# Altium schematic symbol library MCU_ST_STM32F1.SchLib: 178 symbols (part 1 of 4)
Pins are listed as number, name and electrical type; pins without a type are passive.

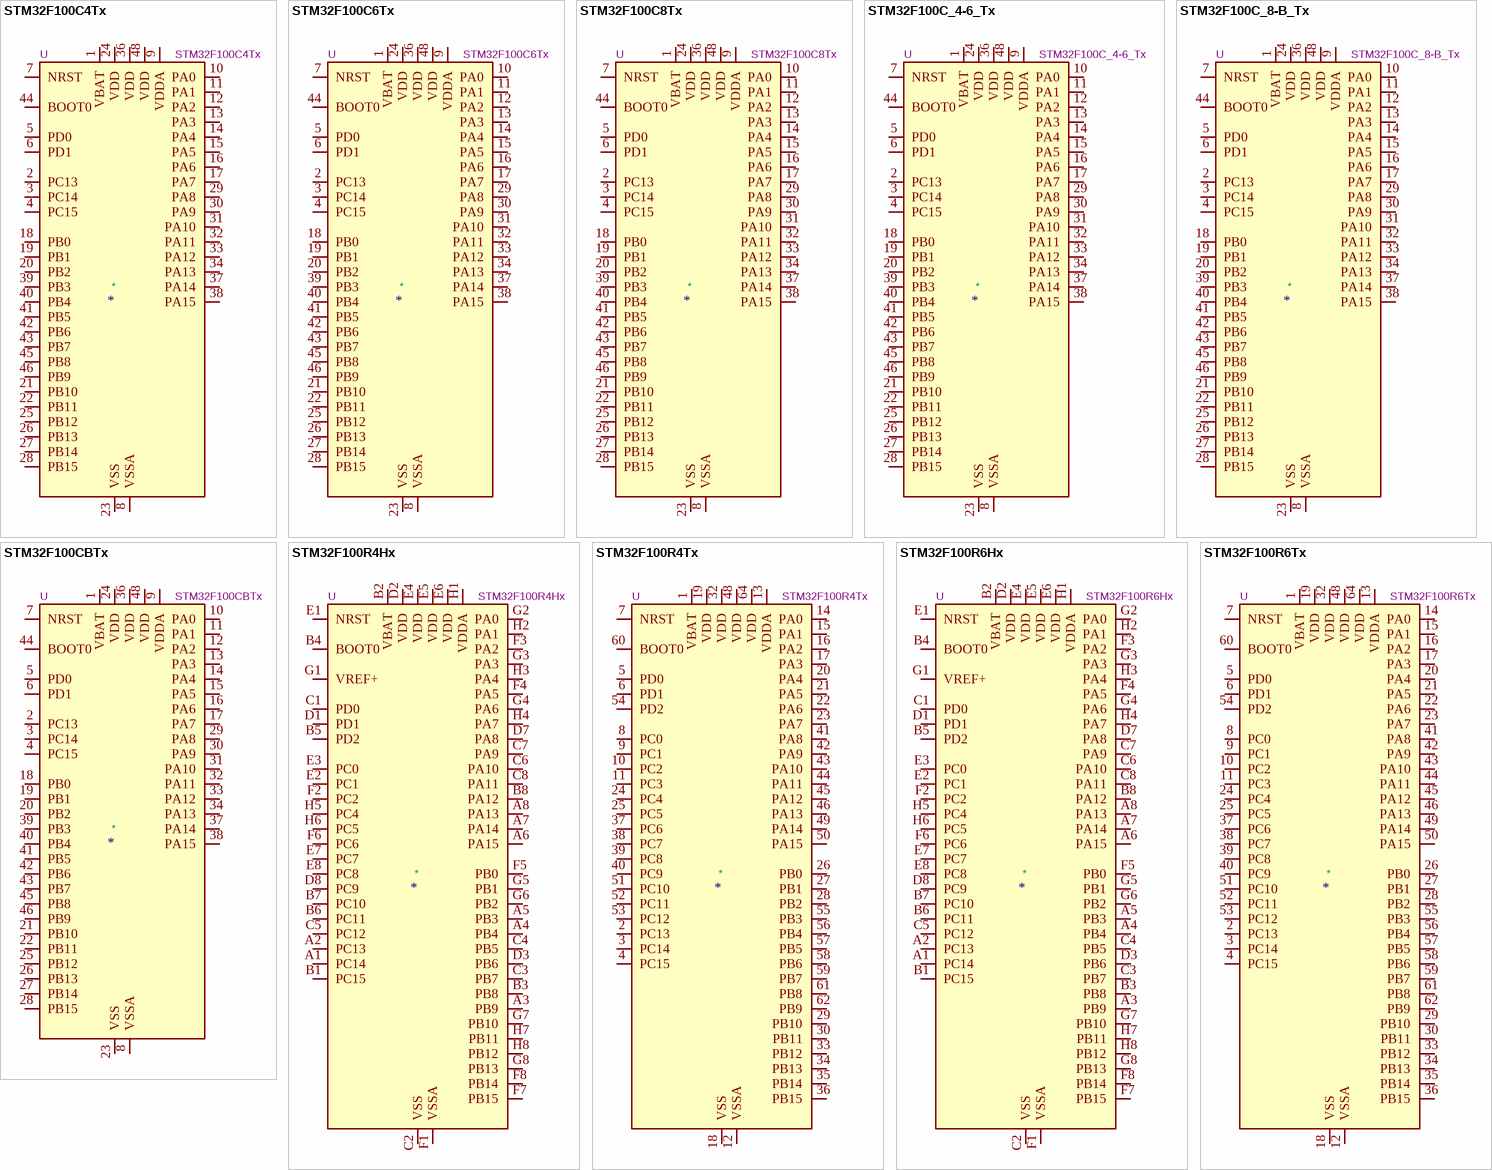
[diagram p0: symbols STM32F100C4Tx to STM32F100R6Tx]

## STM32F100C4Tx
designator *  value STM32F100C4Tx  Reference: U
ki_keywords: Arm Cortex-M3 STM32F1 STM32F100 Value Line; ki_description: STMicroelectronics Arm Cortex-M3 MCU, 16KB flash, 4KB RAM, 24 MHz, 2.0-3.6V, 37 GPIO, LQFP48; ki_fp_filters: LQFP*7x7mm*P0.5mm*; Footprint: Package_QFP:LQFP-48_7x7mm_P0.5mm; Datasheet: https://www.st.com/resource/en/datasheet/stm32f100c4.pdf
pins: 1 VBAT, 2 PC13, 3 PC14, 4 PC15, 5 PD0, 6 PD1, 7 NRST, 8 VSSA, 9 VDDA, 10 PA0, 11 PA1, 12 PA2, 13 PA3, 14 PA4, 15 PA5, 16 PA6, 17 PA7, 18 PB0, 19 PB1, 20 PB2, 21 PB10, 22 PB11, 23 VSS, 24 VDD, 25 PB12, 26 PB13, 27 PB14, 28 PB15, 29 PA8, 30 PA9, 31 PA10, 32 PA11, 33 PA12, 34 PA13, 35 VSS hidden, 36 VDD, 37 PA14, 38 PA15, 39 PB3, 40 PB4, 41 PB5, 42 PB6, 43 PB7, 44 BOOT0, 45 PB8, 46 PB9, 47 VSS hidden, 48 VDD

## STM32F100C6Tx
designator *  value STM32F100C6Tx  Reference: U
ki_keywords: Arm Cortex-M3 STM32F1 STM32F100 Value Line; ki_description: STMicroelectronics Arm Cortex-M3 MCU, 32KB flash, 4KB RAM, 24 MHz, 2.0-3.6V, 37 GPIO, LQFP48; ki_fp_filters: LQFP*7x7mm*P0.5mm*; Footprint: Package_QFP:LQFP-48_7x7mm_P0.5mm; Datasheet: https://www.st.com/resource/en/datasheet/stm32f100c6.pdf
pins: 1 VBAT, 2 PC13, 3 PC14, 4 PC15, 5 PD0, 6 PD1, 7 NRST, 8 VSSA, 9 VDDA, 10 PA0, 11 PA1, 12 PA2, 13 PA3, 14 PA4, 15 PA5, 16 PA6, 17 PA7, 18 PB0, 19 PB1, 20 PB2, 21 PB10, 22 PB11, 23 VSS, 24 VDD, 25 PB12, 26 PB13, 27 PB14, 28 PB15, 29 PA8, 30 PA9, 31 PA10, 32 PA11, 33 PA12, 34 PA13, 35 VSS hidden, 36 VDD, 37 PA14, 38 PA15, 39 PB3, 40 PB4, 41 PB5, 42 PB6, 43 PB7, 44 BOOT0, 45 PB8, 46 PB9, 47 VSS hidden, 48 VDD

## STM32F100C8Tx
designator *  value STM32F100C8Tx  Reference: U
ki_keywords: Arm Cortex-M3 STM32F1 STM32F100 Value Line; ki_description: STMicroelectronics Arm Cortex-M3 MCU, 64KB flash, 8KB RAM, 24 MHz, 2.0-3.6V, 37 GPIO, LQFP48; ki_fp_filters: LQFP*7x7mm*P0.5mm*; Footprint: Package_QFP:LQFP-48_7x7mm_P0.5mm; Datasheet: https://www.st.com/resource/en/datasheet/stm32f100c8.pdf
pins: 1 VBAT, 2 PC13, 3 PC14, 4 PC15, 5 PD0, 6 PD1, 7 NRST, 8 VSSA, 9 VDDA, 10 PA0, 11 PA1, 12 PA2, 13 PA3, 14 PA4, 15 PA5, 16 PA6, 17 PA7, 18 PB0, 19 PB1, 20 PB2, 21 PB10, 22 PB11, 23 VSS, 24 VDD, 25 PB12, 26 PB13, 27 PB14, 28 PB15, 29 PA8, 30 PA9, 31 PA10, 32 PA11, 33 PA12, 34 PA13, 35 VSS hidden, 36 VDD, 37 PA14, 38 PA15, 39 PB3, 40 PB4, 41 PB5, 42 PB6, 43 PB7, 44 BOOT0, 45 PB8, 46 PB9, 47 VSS hidden, 48 VDD

## STM32F100C_4-6_Tx
designator *  value STM32F100C_4-6_Tx  Reference: U
ki_keywords: Arm Cortex-M3 STM32F1 STM32F100 Value Line; ki_description: STMicroelectronics Arm Cortex-M3 MCU, 16-32KB flash, 4KB RAM, 24 MHz, 2.0-3.6V, 37 GPIO, LQFP48; ki_fp_filters: LQFP*7x7mm*P0.5mm*; Footprint: Package_QFP:LQFP-48_7x7mm_P0.5mm; Datasheet: https://www.st.com/resource/en/datasheet/stm32f100c4.pdf
pins: 1 VBAT, 2 PC13, 3 PC14, 4 PC15, 5 PD0, 6 PD1, 7 NRST, 8 VSSA, 9 VDDA, 10 PA0, 11 PA1, 12 PA2, 13 PA3, 14 PA4, 15 PA5, 16 PA6, 17 PA7, 18 PB0, 19 PB1, 20 PB2, 21 PB10, 22 PB11, 23 VSS, 24 VDD, 25 PB12, 26 PB13, 27 PB14, 28 PB15, 29 PA8, 30 PA9, 31 PA10, 32 PA11, 33 PA12, 34 PA13, 35 VSS hidden, 36 VDD, 37 PA14, 38 PA15, 39 PB3, 40 PB4, 41 PB5, 42 PB6, 43 PB7, 44 BOOT0, 45 PB8, 46 PB9, 47 VSS hidden, 48 VDD

## STM32F100C_8-B_Tx
designator *  value STM32F100C_8-B_Tx  Reference: U
ki_keywords: Arm Cortex-M3 STM32F1 STM32F100 Value Line; ki_description: STMicroelectronics Arm Cortex-M3 MCU, 64-128KB flash, 8KB RAM, 24 MHz, 2.0-3.6V, 37 GPIO, LQFP48; ki_fp_filters: LQFP*7x7mm*P0.5mm*; Footprint: Package_QFP:LQFP-48_7x7mm_P0.5mm; Datasheet: https://www.st.com/resource/en/datasheet/stm32f100c8.pdf
pins: 1 VBAT, 2 PC13, 3 PC14, 4 PC15, 5 PD0, 6 PD1, 7 NRST, 8 VSSA, 9 VDDA, 10 PA0, 11 PA1, 12 PA2, 13 PA3, 14 PA4, 15 PA5, 16 PA6, 17 PA7, 18 PB0, 19 PB1, 20 PB2, 21 PB10, 22 PB11, 23 VSS, 24 VDD, 25 PB12, 26 PB13, 27 PB14, 28 PB15, 29 PA8, 30 PA9, 31 PA10, 32 PA11, 33 PA12, 34 PA13, 35 VSS hidden, 36 VDD, 37 PA14, 38 PA15, 39 PB3, 40 PB4, 41 PB5, 42 PB6, 43 PB7, 44 BOOT0, 45 PB8, 46 PB9, 47 VSS hidden, 48 VDD

## STM32F100CBTx
designator *  value STM32F100CBTx  Reference: U
ki_keywords: Arm Cortex-M3 STM32F1 STM32F100 Value Line; ki_description: STMicroelectronics Arm Cortex-M3 MCU, 128KB flash, 8KB RAM, 24 MHz, 2.0-3.6V, 37 GPIO, LQFP48; ki_fp_filters: LQFP*7x7mm*P0.5mm*; Footprint: Package_QFP:LQFP-48_7x7mm_P0.5mm; Datasheet: https://www.st.com/resource/en/datasheet/stm32f100cb.pdf
pins: 1 VBAT, 2 PC13, 3 PC14, 4 PC15, 5 PD0, 6 PD1, 7 NRST, 8 VSSA, 9 VDDA, 10 PA0, 11 PA1, 12 PA2, 13 PA3, 14 PA4, 15 PA5, 16 PA6, 17 PA7, 18 PB0, 19 PB1, 20 PB2, 21 PB10, 22 PB11, 23 VSS, 24 VDD, 25 PB12, 26 PB13, 27 PB14, 28 PB15, 29 PA8, 30 PA9, 31 PA10, 32 PA11, 33 PA12, 34 PA13, 35 VSS hidden, 36 VDD, 37 PA14, 38 PA15, 39 PB3, 40 PB4, 41 PB5, 42 PB6, 43 PB7, 44 BOOT0, 45 PB8, 46 PB9, 47 VSS hidden, 48 VDD

## STM32F100R4Hx
designator *  value STM32F100R4Hx  Reference: U
ki_keywords: Arm Cortex-M3 STM32F1 STM32F100 Value Line; ki_description: STMicroelectronics Arm Cortex-M3 MCU, 16KB flash, 4KB RAM, 24 MHz, 2.0-3.6V, 50 GPIO, TFBGA64; ki_fp_filters: TFBGA*5x5mm*Layout8x8*P0.5mm*; Footprint: Package_BGA:TFBGA-64_5x5mm_Layout8x8_P0.5mm; Datasheet: https://www.st.com/resource/en/datasheet/stm32f100r4.pdf
pins: A1 PC14, A2 PC13, A3 PB9, A4 PB4, A5 PB3, A6 PA15, A7 PA14, A8 PA13, B1 PC15, B2 VBAT, B3 PB8, B4 BOOT0, B5 PD2, B6 PC11, B7 PC10, B8 PA12, C1 PD0, C2 VSS, C3 PB7, C4 PB5, C5 PC12, C6 PA10, C7 PA9, C8 PA11, D1 PD1, D2 VDD, D3 PB6, D4 VSS hidden, D5 VSS hidden, D6 VSS hidden, D7 PA8, D8 PC9, E1 NRST, E2 PC1, E3 PC0, E4 VDD, E5 VDD, E6 VDD, E7 PC7, E8 PC8, F1 VSSA, F2 PC2, F3 PA2, F4 PA5, F5 PB0, F6 PC6, F7 PB15, F8 PB14, G1 VREF+, G2 PA0, G3 PA3, G4 PA6, G5 PB1, G6 PB2, G7 PB10, G8 PB13, H1 VDDA, H2 PA1, H3 PA4, H4 PA7, H5 PC4, H6 PC5, H7 PB11, H8 PB12

## STM32F100R4Tx
designator *  value STM32F100R4Tx  Reference: U
ki_keywords: Arm Cortex-M3 STM32F1 STM32F100 Value Line; ki_description: STMicroelectronics Arm Cortex-M3 MCU, 16KB flash, 4KB RAM, 24 MHz, 2.0-3.6V, 51 GPIO, LQFP64; ki_fp_filters: LQFP*10x10mm*P0.5mm*; Footprint: Package_QFP:LQFP-64_10x10mm_P0.5mm; Datasheet: https://www.st.com/resource/en/datasheet/stm32f100r4.pdf
pins: 1 VBAT, 2 PC13, 3 PC14, 4 PC15, 5 PD0, 6 PD1, 7 NRST, 8 PC0, 9 PC1, 10 PC2, 11 PC3, 12 VSSA, 13 VDDA, 14 PA0, 15 PA1, 16 PA2, 17 PA3, 18 VSS, 19 VDD, 20 PA4, 21 PA5, 22 PA6, 23 PA7, 24 PC4, 25 PC5, 26 PB0, 27 PB1, 28 PB2, 29 PB10, 30 PB11, 31 VSS hidden, 32 VDD, 33 PB12, 34 PB13, 35 PB14, 36 PB15, 37 PC6, 38 PC7, 39 PC8, 40 PC9, 41 PA8, 42 PA9, 43 PA10, 44 PA11, 45 PA12, 46 PA13, 47 VSS hidden, 48 VDD, 49 PA14, 50 PA15, 51 PC10, 52 PC11, 53 PC12, 54 PD2, 55 PB3, 56 PB4, 57 PB5, 58 PB6, 59 PB7, 60 BOOT0, 61 PB8, 62 PB9, 63 VSS hidden, 64 VDD

## STM32F100R6Hx
designator *  value STM32F100R6Hx  Reference: U
ki_keywords: Arm Cortex-M3 STM32F1 STM32F100 Value Line; ki_description: STMicroelectronics Arm Cortex-M3 MCU, 32KB flash, 4KB RAM, 24 MHz, 2.0-3.6V, 50 GPIO, TFBGA64; ki_fp_filters: TFBGA*5x5mm*Layout8x8*P0.5mm*; Footprint: Package_BGA:TFBGA-64_5x5mm_Layout8x8_P0.5mm; Datasheet: https://www.st.com/resource/en/datasheet/stm32f100r6.pdf
pins: A1 PC14, A2 PC13, A3 PB9, A4 PB4, A5 PB3, A6 PA15, A7 PA14, A8 PA13, B1 PC15, B2 VBAT, B3 PB8, B4 BOOT0, B5 PD2, B6 PC11, B7 PC10, B8 PA12, C1 PD0, C2 VSS, C3 PB7, C4 PB5, C5 PC12, C6 PA10, C7 PA9, C8 PA11, D1 PD1, D2 VDD, D3 PB6, D4 VSS hidden, D5 VSS hidden, D6 VSS hidden, D7 PA8, D8 PC9, E1 NRST, E2 PC1, E3 PC0, E4 VDD, E5 VDD, E6 VDD, E7 PC7, E8 PC8, F1 VSSA, F2 PC2, F3 PA2, F4 PA5, F5 PB0, F6 PC6, F7 PB15, F8 PB14, G1 VREF+, G2 PA0, G3 PA3, G4 PA6, G5 PB1, G6 PB2, G7 PB10, G8 PB13, H1 VDDA, H2 PA1, H3 PA4, H4 PA7, H5 PC4, H6 PC5, H7 PB11, H8 PB12

## STM32F100R6Tx
designator *  value STM32F100R6Tx  Reference: U
ki_keywords: Arm Cortex-M3 STM32F1 STM32F100 Value Line; ki_description: STMicroelectronics Arm Cortex-M3 MCU, 32KB flash, 4KB RAM, 24 MHz, 2.0-3.6V, 51 GPIO, LQFP64; ki_fp_filters: LQFP*10x10mm*P0.5mm*; Footprint: Package_QFP:LQFP-64_10x10mm_P0.5mm; Datasheet: https://www.st.com/resource/en/datasheet/stm32f100r6.pdf
pins: 1 VBAT, 2 PC13, 3 PC14, 4 PC15, 5 PD0, 6 PD1, 7 NRST, 8 PC0, 9 PC1, 10 PC2, 11 PC3, 12 VSSA, 13 VDDA, 14 PA0, 15 PA1, 16 PA2, 17 PA3, 18 VSS, 19 VDD, 20 PA4, 21 PA5, 22 PA6, 23 PA7, 24 PC4, 25 PC5, 26 PB0, 27 PB1, 28 PB2, 29 PB10, 30 PB11, 31 VSS hidden, 32 VDD, 33 PB12, 34 PB13, 35 PB14, 36 PB15, 37 PC6, 38 PC7, 39 PC8, 40 PC9, 41 PA8, 42 PA9, 43 PA10, 44 PA11, 45 PA12, 46 PA13, 47 VSS hidden, 48 VDD, 49 PA14, 50 PA15, 51 PC10, 52 PC11, 53 PC12, 54 PD2, 55 PB3, 56 PB4, 57 PB5, 58 PB6, 59 PB7, 60 BOOT0, 61 PB8, 62 PB9, 63 VSS hidden, 64 VDD

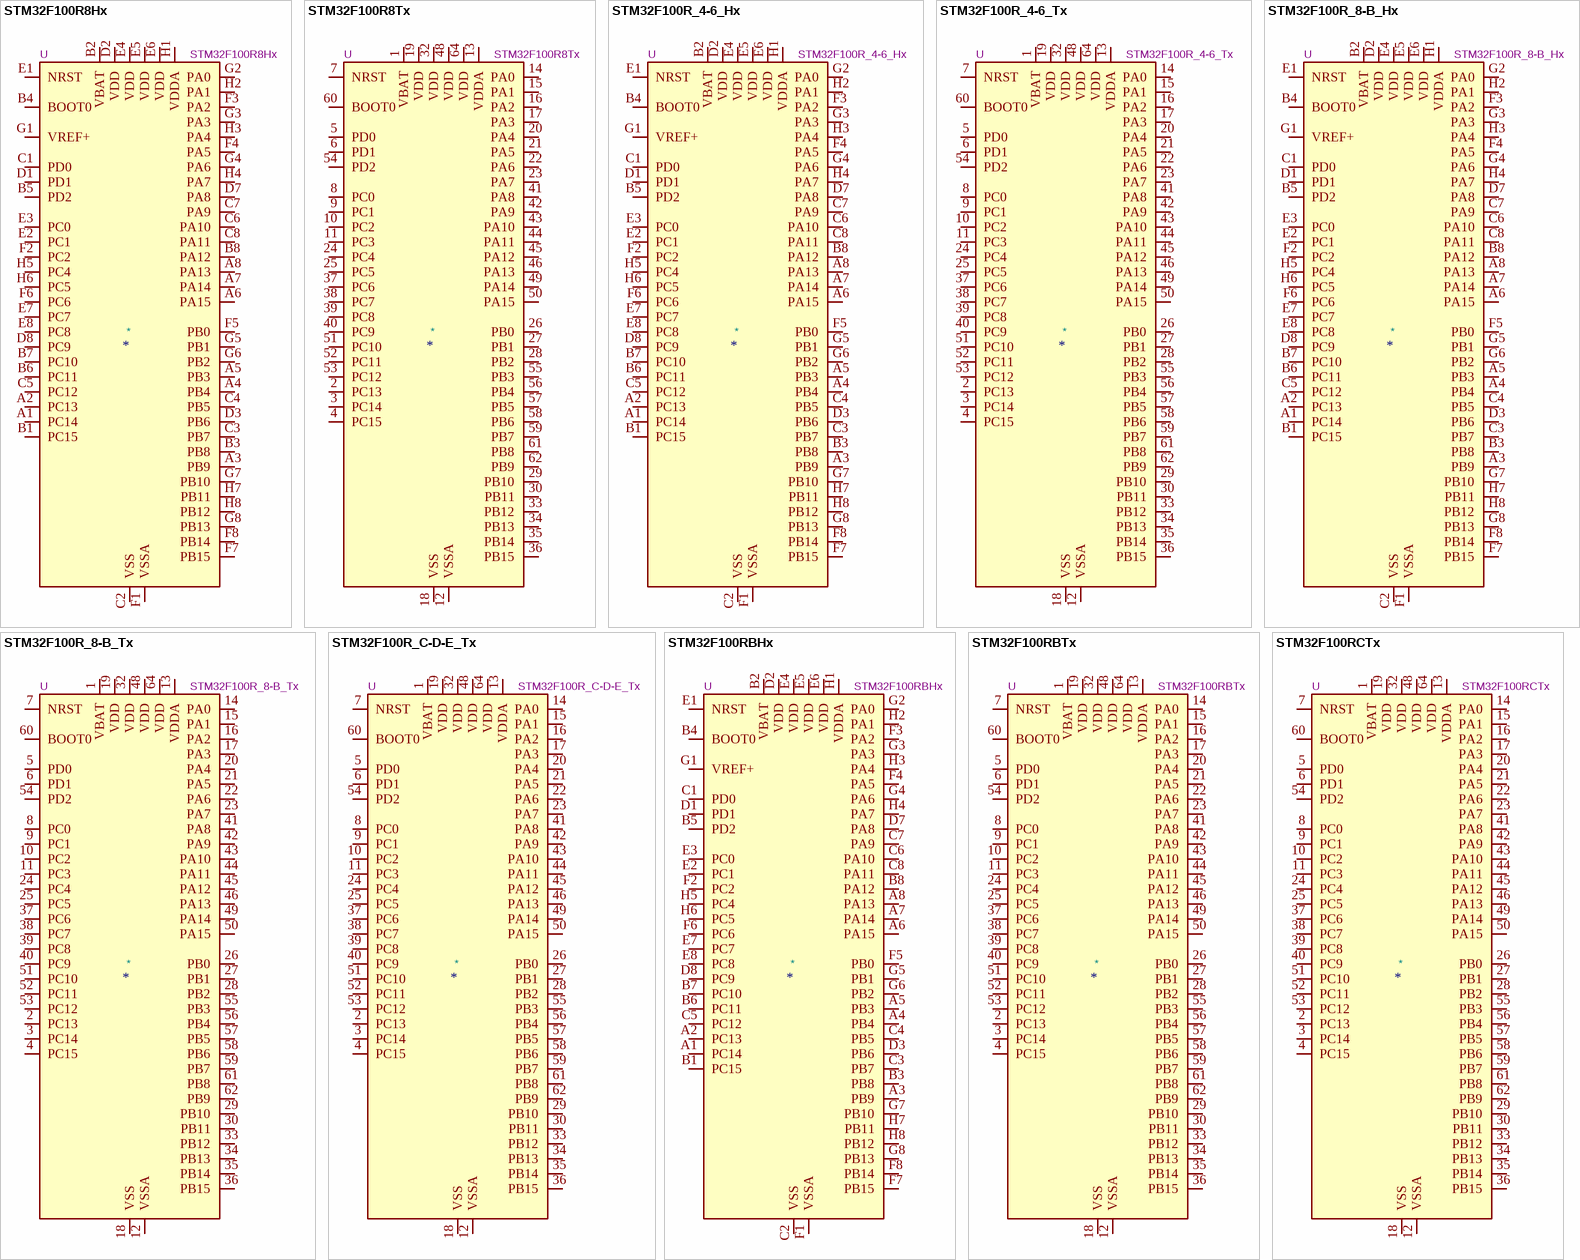
[diagram p1: symbols STM32F100R8Hx to STM32F100RCTx]

## STM32F100R8Hx
designator *  value STM32F100R8Hx  Reference: U
ki_keywords: Arm Cortex-M3 STM32F1 STM32F100 Value Line; ki_description: STMicroelectronics Arm Cortex-M3 MCU, 64KB flash, 8KB RAM, 24 MHz, 2.0-3.6V, 50 GPIO, TFBGA64; ki_fp_filters: TFBGA*5x5mm*Layout8x8*P0.5mm*; Footprint: Package_BGA:TFBGA-64_5x5mm_Layout8x8_P0.5mm; Datasheet: https://www.st.com/resource/en/datasheet/stm32f100r8.pdf
pins: A1 PC14, A2 PC13, A3 PB9, A4 PB4, A5 PB3, A6 PA15, A7 PA14, A8 PA13, B1 PC15, B2 VBAT, B3 PB8, B4 BOOT0, B5 PD2, B6 PC11, B7 PC10, B8 PA12, C1 PD0, C2 VSS, C3 PB7, C4 PB5, C5 PC12, C6 PA10, C7 PA9, C8 PA11, D1 PD1, D2 VDD, D3 PB6, D4 VSS hidden, D5 VSS hidden, D6 VSS hidden, D7 PA8, D8 PC9, E1 NRST, E2 PC1, E3 PC0, E4 VDD, E5 VDD, E6 VDD, E7 PC7, E8 PC8, F1 VSSA, F2 PC2, F3 PA2, F4 PA5, F5 PB0, F6 PC6, F7 PB15, F8 PB14, G1 VREF+, G2 PA0, G3 PA3, G4 PA6, G5 PB1, G6 PB2, G7 PB10, G8 PB13, H1 VDDA, H2 PA1, H3 PA4, H4 PA7, H5 PC4, H6 PC5, H7 PB11, H8 PB12

## STM32F100R8Tx
designator *  value STM32F100R8Tx  Reference: U
ki_keywords: Arm Cortex-M3 STM32F1 STM32F100 Value Line; ki_description: STMicroelectronics Arm Cortex-M3 MCU, 64KB flash, 8KB RAM, 24 MHz, 2.0-3.6V, 51 GPIO, LQFP64; ki_fp_filters: LQFP*10x10mm*P0.5mm*; Footprint: Package_QFP:LQFP-64_10x10mm_P0.5mm; Datasheet: https://www.st.com/resource/en/datasheet/stm32f100r8.pdf
pins: 1 VBAT, 2 PC13, 3 PC14, 4 PC15, 5 PD0, 6 PD1, 7 NRST, 8 PC0, 9 PC1, 10 PC2, 11 PC3, 12 VSSA, 13 VDDA, 14 PA0, 15 PA1, 16 PA2, 17 PA3, 18 VSS, 19 VDD, 20 PA4, 21 PA5, 22 PA6, 23 PA7, 24 PC4, 25 PC5, 26 PB0, 27 PB1, 28 PB2, 29 PB10, 30 PB11, 31 VSS hidden, 32 VDD, 33 PB12, 34 PB13, 35 PB14, 36 PB15, 37 PC6, 38 PC7, 39 PC8, 40 PC9, 41 PA8, 42 PA9, 43 PA10, 44 PA11, 45 PA12, 46 PA13, 47 VSS hidden, 48 VDD, 49 PA14, 50 PA15, 51 PC10, 52 PC11, 53 PC12, 54 PD2, 55 PB3, 56 PB4, 57 PB5, 58 PB6, 59 PB7, 60 BOOT0, 61 PB8, 62 PB9, 63 VSS hidden, 64 VDD

## STM32F100R_4-6_Hx
designator *  value STM32F100R_4-6_Hx  Reference: U
ki_keywords: Arm Cortex-M3 STM32F1 STM32F100 Value Line; ki_description: STMicroelectronics Arm Cortex-M3 MCU, 16-32KB flash, 4KB RAM, 24 MHz, 2.0-3.6V, 50 GPIO, TFBGA64; ki_fp_filters: TFBGA*5x5mm*Layout8x8*P0.5mm*; Footprint: Package_BGA:TFBGA-64_5x5mm_Layout8x8_P0.5mm; Datasheet: https://www.st.com/resource/en/datasheet/stm32f100r4.pdf
pins: A1 PC14, A2 PC13, A3 PB9, A4 PB4, A5 PB3, A6 PA15, A7 PA14, A8 PA13, B1 PC15, B2 VBAT, B3 PB8, B4 BOOT0, B5 PD2, B6 PC11, B7 PC10, B8 PA12, C1 PD0, C2 VSS, C3 PB7, C4 PB5, C5 PC12, C6 PA10, C7 PA9, C8 PA11, D1 PD1, D2 VDD, D3 PB6, D4 VSS hidden, D5 VSS hidden, D6 VSS hidden, D7 PA8, D8 PC9, E1 NRST, E2 PC1, E3 PC0, E4 VDD, E5 VDD, E6 VDD, E7 PC7, E8 PC8, F1 VSSA, F2 PC2, F3 PA2, F4 PA5, F5 PB0, F6 PC6, F7 PB15, F8 PB14, G1 VREF+, G2 PA0, G3 PA3, G4 PA6, G5 PB1, G6 PB2, G7 PB10, G8 PB13, H1 VDDA, H2 PA1, H3 PA4, H4 PA7, H5 PC4, H6 PC5, H7 PB11, H8 PB12

## STM32F100R_4-6_Tx
designator *  value STM32F100R_4-6_Tx  Reference: U
ki_keywords: Arm Cortex-M3 STM32F1 STM32F100 Value Line; ki_description: STMicroelectronics Arm Cortex-M3 MCU, 16-32KB flash, 4KB RAM, 24 MHz, 2.0-3.6V, 51 GPIO, LQFP64; ki_fp_filters: LQFP*10x10mm*P0.5mm*; Footprint: Package_QFP:LQFP-64_10x10mm_P0.5mm; Datasheet: https://www.st.com/resource/en/datasheet/stm32f100r4.pdf
pins: 1 VBAT, 2 PC13, 3 PC14, 4 PC15, 5 PD0, 6 PD1, 7 NRST, 8 PC0, 9 PC1, 10 PC2, 11 PC3, 12 VSSA, 13 VDDA, 14 PA0, 15 PA1, 16 PA2, 17 PA3, 18 VSS, 19 VDD, 20 PA4, 21 PA5, 22 PA6, 23 PA7, 24 PC4, 25 PC5, 26 PB0, 27 PB1, 28 PB2, 29 PB10, 30 PB11, 31 VSS hidden, 32 VDD, 33 PB12, 34 PB13, 35 PB14, 36 PB15, 37 PC6, 38 PC7, 39 PC8, 40 PC9, 41 PA8, 42 PA9, 43 PA10, 44 PA11, 45 PA12, 46 PA13, 47 VSS hidden, 48 VDD, 49 PA14, 50 PA15, 51 PC10, 52 PC11, 53 PC12, 54 PD2, 55 PB3, 56 PB4, 57 PB5, 58 PB6, 59 PB7, 60 BOOT0, 61 PB8, 62 PB9, 63 VSS hidden, 64 VDD

## STM32F100R_8-B_Hx
designator *  value STM32F100R_8-B_Hx  Reference: U
ki_keywords: Arm Cortex-M3 STM32F1 STM32F100 Value Line; ki_description: STMicroelectronics Arm Cortex-M3 MCU, 64-128KB flash, 8KB RAM, 24 MHz, 2.0-3.6V, 50 GPIO, TFBGA64; ki_fp_filters: TFBGA*5x5mm*Layout8x8*P0.5mm*; Footprint: Package_BGA:TFBGA-64_5x5mm_Layout8x8_P0.5mm; Datasheet: https://www.st.com/resource/en/datasheet/stm32f100r8.pdf
pins: A1 PC14, A2 PC13, A3 PB9, A4 PB4, A5 PB3, A6 PA15, A7 PA14, A8 PA13, B1 PC15, B2 VBAT, B3 PB8, B4 BOOT0, B5 PD2, B6 PC11, B7 PC10, B8 PA12, C1 PD0, C2 VSS, C3 PB7, C4 PB5, C5 PC12, C6 PA10, C7 PA9, C8 PA11, D1 PD1, D2 VDD, D3 PB6, D4 VSS hidden, D5 VSS hidden, D6 VSS hidden, D7 PA8, D8 PC9, E1 NRST, E2 PC1, E3 PC0, E4 VDD, E5 VDD, E6 VDD, E7 PC7, E8 PC8, F1 VSSA, F2 PC2, F3 PA2, F4 PA5, F5 PB0, F6 PC6, F7 PB15, F8 PB14, G1 VREF+, G2 PA0, G3 PA3, G4 PA6, G5 PB1, G6 PB2, G7 PB10, G8 PB13, H1 VDDA, H2 PA1, H3 PA4, H4 PA7, H5 PC4, H6 PC5, H7 PB11, H8 PB12

## STM32F100R_8-B_Tx
designator *  value STM32F100R_8-B_Tx  Reference: U
ki_keywords: Arm Cortex-M3 STM32F1 STM32F100 Value Line; ki_description: STMicroelectronics Arm Cortex-M3 MCU, 64-128KB flash, 8KB RAM, 24 MHz, 2.0-3.6V, 51 GPIO, LQFP64; ki_fp_filters: LQFP*10x10mm*P0.5mm*; Footprint: Package_QFP:LQFP-64_10x10mm_P0.5mm; Datasheet: https://www.st.com/resource/en/datasheet/stm32f100r8.pdf
pins: 1 VBAT, 2 PC13, 3 PC14, 4 PC15, 5 PD0, 6 PD1, 7 NRST, 8 PC0, 9 PC1, 10 PC2, 11 PC3, 12 VSSA, 13 VDDA, 14 PA0, 15 PA1, 16 PA2, 17 PA3, 18 VSS, 19 VDD, 20 PA4, 21 PA5, 22 PA6, 23 PA7, 24 PC4, 25 PC5, 26 PB0, 27 PB1, 28 PB2, 29 PB10, 30 PB11, 31 VSS hidden, 32 VDD, 33 PB12, 34 PB13, 35 PB14, 36 PB15, 37 PC6, 38 PC7, 39 PC8, 40 PC9, 41 PA8, 42 PA9, 43 PA10, 44 PA11, 45 PA12, 46 PA13, 47 VSS hidden, 48 VDD, 49 PA14, 50 PA15, 51 PC10, 52 PC11, 53 PC12, 54 PD2, 55 PB3, 56 PB4, 57 PB5, 58 PB6, 59 PB7, 60 BOOT0, 61 PB8, 62 PB9, 63 VSS hidden, 64 VDD

## STM32F100R_C-D-E_Tx
designator *  value STM32F100R_C-D-E_Tx  Reference: U
ki_keywords: Arm Cortex-M3 STM32F1 STM32F100 Value Line; ki_description: STMicroelectronics Arm Cortex-M3 MCU, 256-512KB flash, 24-32KB RAM, 24 MHz, 2.0-3.6V, 51 GPIO, LQFP64; ki_fp_filters: LQFP*10x10mm*P0.5mm*; Footprint: Package_QFP:LQFP-64_10x10mm_P0.5mm; Datasheet: https://www.st.com/resource/en/datasheet/stm32f100rc.pdf
pins: 1 VBAT, 2 PC13, 3 PC14, 4 PC15, 5 PD0, 6 PD1, 7 NRST, 8 PC0, 9 PC1, 10 PC2, 11 PC3, 12 VSSA, 13 VDDA, 14 PA0, 15 PA1, 16 PA2, 17 PA3, 18 VSS, 19 VDD, 20 PA4, 21 PA5, 22 PA6, 23 PA7, 24 PC4, 25 PC5, 26 PB0, 27 PB1, 28 PB2, 29 PB10, 30 PB11, 31 VSS hidden, 32 VDD, 33 PB12, 34 PB13, 35 PB14, 36 PB15, 37 PC6, 38 PC7, 39 PC8, 40 PC9, 41 PA8, 42 PA9, 43 PA10, 44 PA11, 45 PA12, 46 PA13, 47 VSS hidden, 48 VDD, 49 PA14, 50 PA15, 51 PC10, 52 PC11, 53 PC12, 54 PD2, 55 PB3, 56 PB4, 57 PB5, 58 PB6, 59 PB7, 60 BOOT0, 61 PB8, 62 PB9, 63 VSS hidden, 64 VDD

## STM32F100RBHx
designator *  value STM32F100RBHx  Reference: U
ki_keywords: Arm Cortex-M3 STM32F1 STM32F100 Value Line; ki_description: STMicroelectronics Arm Cortex-M3 MCU, 128KB flash, 8KB RAM, 24 MHz, 2.0-3.6V, 50 GPIO, TFBGA64; ki_fp_filters: TFBGA*5x5mm*Layout8x8*P0.5mm*; Footprint: Package_BGA:TFBGA-64_5x5mm_Layout8x8_P0.5mm; Datasheet: https://www.st.com/resource/en/datasheet/stm32f100rb.pdf
pins: A1 PC14, A2 PC13, A3 PB9, A4 PB4, A5 PB3, A6 PA15, A7 PA14, A8 PA13, B1 PC15, B2 VBAT, B3 PB8, B4 BOOT0, B5 PD2, B6 PC11, B7 PC10, B8 PA12, C1 PD0, C2 VSS, C3 PB7, C4 PB5, C5 PC12, C6 PA10, C7 PA9, C8 PA11, D1 PD1, D2 VDD, D3 PB6, D4 VSS hidden, D5 VSS hidden, D6 VSS hidden, D7 PA8, D8 PC9, E1 NRST, E2 PC1, E3 PC0, E4 VDD, E5 VDD, E6 VDD, E7 PC7, E8 PC8, F1 VSSA, F2 PC2, F3 PA2, F4 PA5, F5 PB0, F6 PC6, F7 PB15, F8 PB14, G1 VREF+, G2 PA0, G3 PA3, G4 PA6, G5 PB1, G6 PB2, G7 PB10, G8 PB13, H1 VDDA, H2 PA1, H3 PA4, H4 PA7, H5 PC4, H6 PC5, H7 PB11, H8 PB12

## STM32F100RBTx
designator *  value STM32F100RBTx  Reference: U
ki_keywords: Arm Cortex-M3 STM32F1 STM32F100 Value Line; ki_description: STMicroelectronics Arm Cortex-M3 MCU, 128KB flash, 8KB RAM, 24 MHz, 2.0-3.6V, 51 GPIO, LQFP64; ki_fp_filters: LQFP*10x10mm*P0.5mm*; Footprint: Package_QFP:LQFP-64_10x10mm_P0.5mm; Datasheet: https://www.st.com/resource/en/datasheet/stm32f100rb.pdf
pins: 1 VBAT, 2 PC13, 3 PC14, 4 PC15, 5 PD0, 6 PD1, 7 NRST, 8 PC0, 9 PC1, 10 PC2, 11 PC3, 12 VSSA, 13 VDDA, 14 PA0, 15 PA1, 16 PA2, 17 PA3, 18 VSS, 19 VDD, 20 PA4, 21 PA5, 22 PA6, 23 PA7, 24 PC4, 25 PC5, 26 PB0, 27 PB1, 28 PB2, 29 PB10, 30 PB11, 31 VSS hidden, 32 VDD, 33 PB12, 34 PB13, 35 PB14, 36 PB15, 37 PC6, 38 PC7, 39 PC8, 40 PC9, 41 PA8, 42 PA9, 43 PA10, 44 PA11, 45 PA12, 46 PA13, 47 VSS hidden, 48 VDD, 49 PA14, 50 PA15, 51 PC10, 52 PC11, 53 PC12, 54 PD2, 55 PB3, 56 PB4, 57 PB5, 58 PB6, 59 PB7, 60 BOOT0, 61 PB8, 62 PB9, 63 VSS hidden, 64 VDD

## STM32F100RCTx
designator *  value STM32F100RCTx  Reference: U
ki_keywords: Arm Cortex-M3 STM32F1 STM32F100 Value Line; ki_description: STMicroelectronics Arm Cortex-M3 MCU, 256KB flash, 24KB RAM, 24 MHz, 2.0-3.6V, 51 GPIO, LQFP64; ki_fp_filters: LQFP*10x10mm*P0.5mm*; Footprint: Package_QFP:LQFP-64_10x10mm_P0.5mm; Datasheet: https://www.st.com/resource/en/datasheet/stm32f100rc.pdf
pins: 1 VBAT, 2 PC13, 3 PC14, 4 PC15, 5 PD0, 6 PD1, 7 NRST, 8 PC0, 9 PC1, 10 PC2, 11 PC3, 12 VSSA, 13 VDDA, 14 PA0, 15 PA1, 16 PA2, 17 PA3, 18 VSS, 19 VDD, 20 PA4, 21 PA5, 22 PA6, 23 PA7, 24 PC4, 25 PC5, 26 PB0, 27 PB1, 28 PB2, 29 PB10, 30 PB11, 31 VSS hidden, 32 VDD, 33 PB12, 34 PB13, 35 PB14, 36 PB15, 37 PC6, 38 PC7, 39 PC8, 40 PC9, 41 PA8, 42 PA9, 43 PA10, 44 PA11, 45 PA12, 46 PA13, 47 VSS hidden, 48 VDD, 49 PA14, 50 PA15, 51 PC10, 52 PC11, 53 PC12, 54 PD2, 55 PB3, 56 PB4, 57 PB5, 58 PB6, 59 PB7, 60 BOOT0, 61 PB8, 62 PB9, 63 VSS hidden, 64 VDD

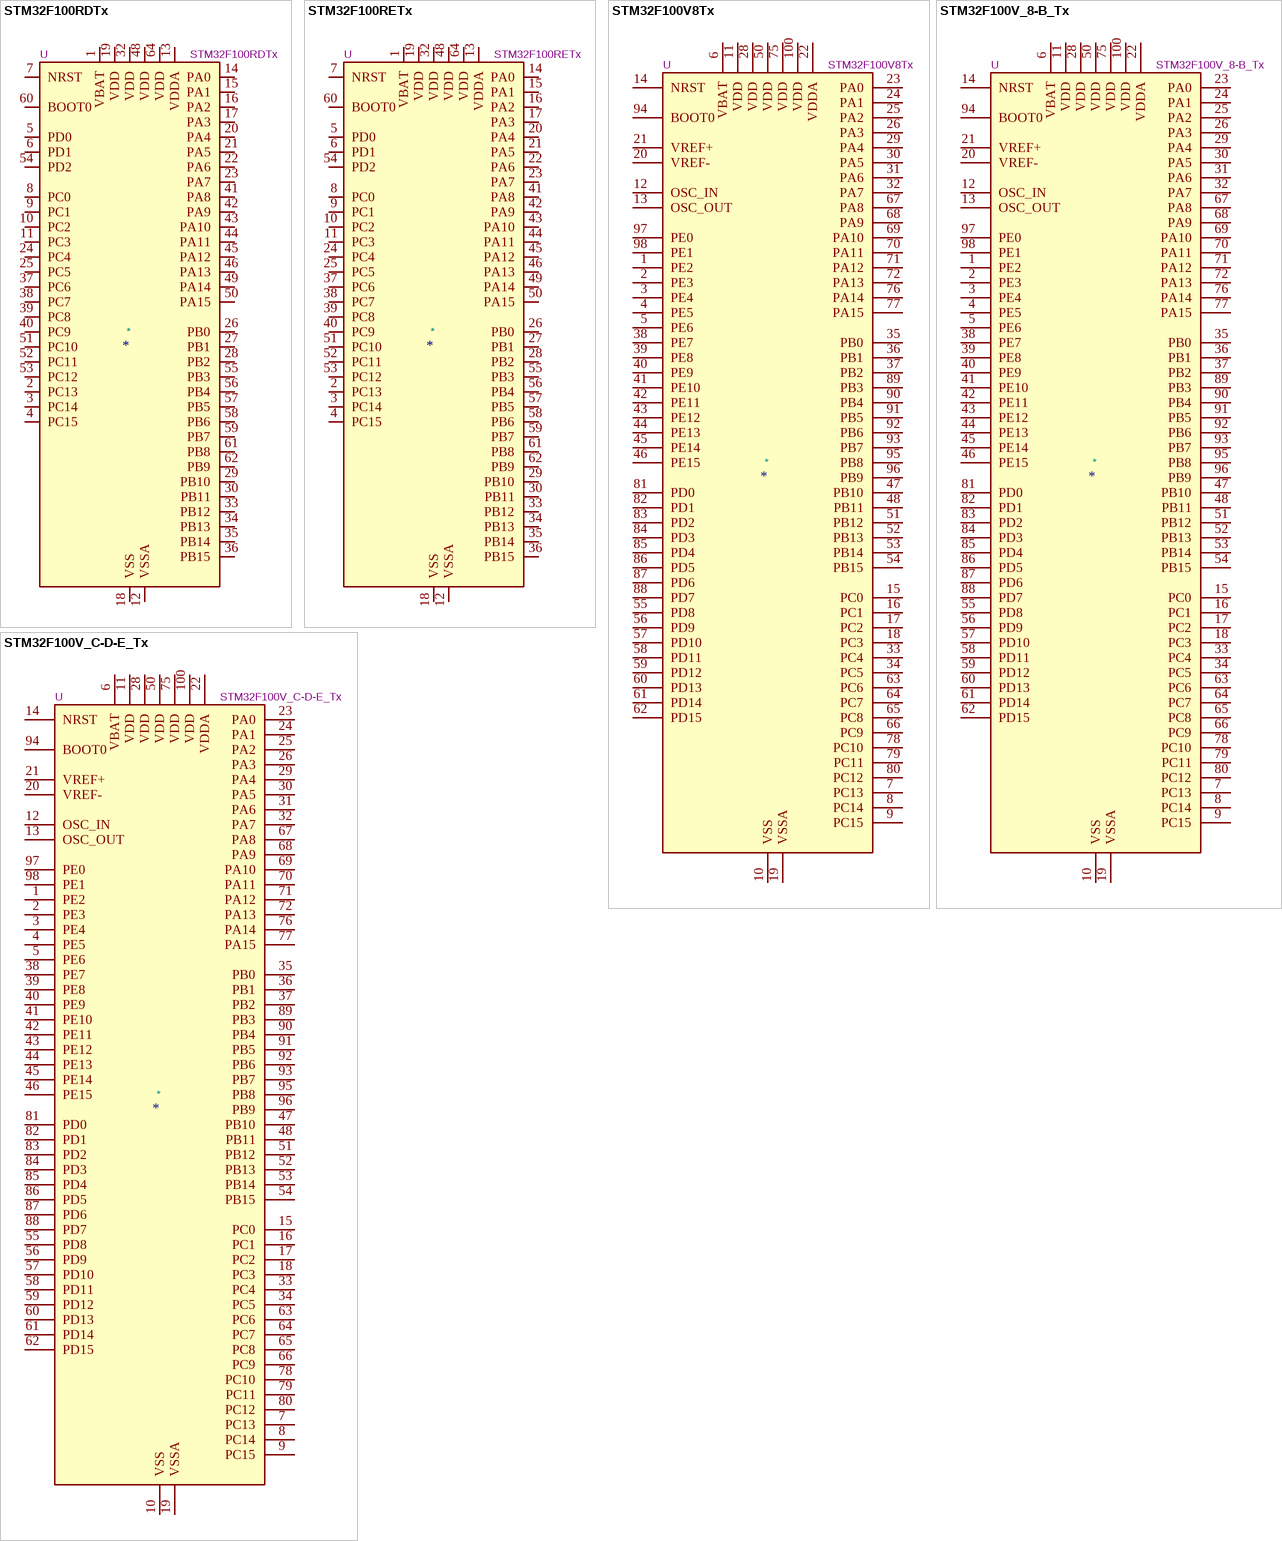
[diagram p2: symbols STM32F100RDTx to STM32F100V_C-D-E_Tx]

## STM32F100RDTx
designator *  value STM32F100RDTx  Reference: U
ki_keywords: Arm Cortex-M3 STM32F1 STM32F100 Value Line; ki_description: STMicroelectronics Arm Cortex-M3 MCU, 384KB flash, 32KB RAM, 24 MHz, 2.0-3.6V, 51 GPIO, LQFP64; ki_fp_filters: LQFP*10x10mm*P0.5mm*; Footprint: Package_QFP:LQFP-64_10x10mm_P0.5mm; Datasheet: https://www.st.com/resource/en/datasheet/stm32f100rd.pdf
pins: 1 VBAT, 2 PC13, 3 PC14, 4 PC15, 5 PD0, 6 PD1, 7 NRST, 8 PC0, 9 PC1, 10 PC2, 11 PC3, 12 VSSA, 13 VDDA, 14 PA0, 15 PA1, 16 PA2, 17 PA3, 18 VSS, 19 VDD, 20 PA4, 21 PA5, 22 PA6, 23 PA7, 24 PC4, 25 PC5, 26 PB0, 27 PB1, 28 PB2, 29 PB10, 30 PB11, 31 VSS hidden, 32 VDD, 33 PB12, 34 PB13, 35 PB14, 36 PB15, 37 PC6, 38 PC7, 39 PC8, 40 PC9, 41 PA8, 42 PA9, 43 PA10, 44 PA11, 45 PA12, 46 PA13, 47 VSS hidden, 48 VDD, 49 PA14, 50 PA15, 51 PC10, 52 PC11, 53 PC12, 54 PD2, 55 PB3, 56 PB4, 57 PB5, 58 PB6, 59 PB7, 60 BOOT0, 61 PB8, 62 PB9, 63 VSS hidden, 64 VDD

## STM32F100RETx
designator *  value STM32F100RETx  Reference: U
ki_keywords: Arm Cortex-M3 STM32F1 STM32F100 Value Line; ki_description: STMicroelectronics Arm Cortex-M3 MCU, 512KB flash, 32KB RAM, 24 MHz, 2.0-3.6V, 51 GPIO, LQFP64; ki_fp_filters: LQFP*10x10mm*P0.5mm*; Footprint: Package_QFP:LQFP-64_10x10mm_P0.5mm; Datasheet: https://www.st.com/resource/en/datasheet/stm32f100re.pdf
pins: 1 VBAT, 2 PC13, 3 PC14, 4 PC15, 5 PD0, 6 PD1, 7 NRST, 8 PC0, 9 PC1, 10 PC2, 11 PC3, 12 VSSA, 13 VDDA, 14 PA0, 15 PA1, 16 PA2, 17 PA3, 18 VSS, 19 VDD, 20 PA4, 21 PA5, 22 PA6, 23 PA7, 24 PC4, 25 PC5, 26 PB0, 27 PB1, 28 PB2, 29 PB10, 30 PB11, 31 VSS hidden, 32 VDD, 33 PB12, 34 PB13, 35 PB14, 36 PB15, 37 PC6, 38 PC7, 39 PC8, 40 PC9, 41 PA8, 42 PA9, 43 PA10, 44 PA11, 45 PA12, 46 PA13, 47 VSS hidden, 48 VDD, 49 PA14, 50 PA15, 51 PC10, 52 PC11, 53 PC12, 54 PD2, 55 PB3, 56 PB4, 57 PB5, 58 PB6, 59 PB7, 60 BOOT0, 61 PB8, 62 PB9, 63 VSS hidden, 64 VDD

## STM32F100V8Tx
designator *  value STM32F100V8Tx  Reference: U
ki_keywords: Arm Cortex-M3 STM32F1 STM32F100 Value Line; ki_description: STMicroelectronics Arm Cortex-M3 MCU, 64KB flash, 8KB RAM, 24 MHz, 2.0-3.6V, 80 GPIO, LQFP100; ki_fp_filters: LQFP*14x14mm*P0.5mm*; Footprint: Package_QFP:LQFP-100_14x14mm_P0.5mm; Datasheet: https://www.st.com/resource/en/datasheet/stm32f100v8.pdf
pins: 1 PE2, 2 PE3, 3 PE4, 4 PE5, 5 PE6, 6 VBAT, 7 PC13, 8 PC14, 9 PC15, 10 VSS, 11 VDD, 12 OSC_IN, 13 OSC_OUT, 14 NRST, 15 PC0, 16 PC1, 17 PC2, 18 PC3, 19 VSSA, 20 VREF-, 21 VREF+, 22 VDDA, 23 PA0, 24 PA1, 25 PA2, 26 PA3, 27 VSS hidden, 28 VDD, 29 PA4, 30 PA5, 31 PA6, 32 PA7, 33 PC4, 34 PC5, 35 PB0, 36 PB1, 37 PB2, 38 PE7, 39 PE8, 40 PE9, 41 PE10, 42 PE11, 43 PE12, 44 PE13, 45 PE14, 46 PE15, 47 PB10, 48 PB11, 49 VSS hidden, 50 VDD, 51 PB12, 52 PB13, 53 PB14, 54 PB15, 55 PD8, 56 PD9, 57 PD10, 58 PD11, 59 PD12, 60 PD13, 61 PD14, 62 PD15, 63 PC6, 64 PC7, 65 PC8, 66 PC9, 67 PA8, 68 PA9, 69 PA10, 70 PA11, 71 PA12, 72 PA13, 73 NC hidden, 74 VSS hidden, 75 VDD, 76 PA14, 77 PA15, 78 PC10, 79 PC11, 80 PC12, 81 PD0, 82 PD1, 83 PD2, 84 PD3, 85 PD4, 86 PD5, 87 PD6, 88 PD7, 89 PB3, 90 PB4, 91 PB5, 92 PB6, 93 PB7, 94 BOOT0, 95 PB8, 96 PB9, 97 PE0, 98 PE1, 99 VSS hidden, 100 VDD

## STM32F100V_8-B_Tx
designator *  value STM32F100V_8-B_Tx  Reference: U
ki_keywords: Arm Cortex-M3 STM32F1 STM32F100 Value Line; ki_description: STMicroelectronics Arm Cortex-M3 MCU, 64-128KB flash, 8KB RAM, 24 MHz, 2.0-3.6V, 80 GPIO, LQFP100; ki_fp_filters: LQFP*14x14mm*P0.5mm*; Footprint: Package_QFP:LQFP-100_14x14mm_P0.5mm; Datasheet: https://www.st.com/resource/en/datasheet/stm32f100v8.pdf
pins: 1 PE2, 2 PE3, 3 PE4, 4 PE5, 5 PE6, 6 VBAT, 7 PC13, 8 PC14, 9 PC15, 10 VSS, 11 VDD, 12 OSC_IN, 13 OSC_OUT, 14 NRST, 15 PC0, 16 PC1, 17 PC2, 18 PC3, 19 VSSA, 20 VREF-, 21 VREF+, 22 VDDA, 23 PA0, 24 PA1, 25 PA2, 26 PA3, 27 VSS hidden, 28 VDD, 29 PA4, 30 PA5, 31 PA6, 32 PA7, 33 PC4, 34 PC5, 35 PB0, 36 PB1, 37 PB2, 38 PE7, 39 PE8, 40 PE9, 41 PE10, 42 PE11, 43 PE12, 44 PE13, 45 PE14, 46 PE15, 47 PB10, 48 PB11, 49 VSS hidden, 50 VDD, 51 PB12, 52 PB13, 53 PB14, 54 PB15, 55 PD8, 56 PD9, 57 PD10, 58 PD11, 59 PD12, 60 PD13, 61 PD14, 62 PD15, 63 PC6, 64 PC7, 65 PC8, 66 PC9, 67 PA8, 68 PA9, 69 PA10, 70 PA11, 71 PA12, 72 PA13, 73 NC hidden, 74 VSS hidden, 75 VDD, 76 PA14, 77 PA15, 78 PC10, 79 PC11, 80 PC12, 81 PD0, 82 PD1, 83 PD2, 84 PD3, 85 PD4, 86 PD5, 87 PD6, 88 PD7, 89 PB3, 90 PB4, 91 PB5, 92 PB6, 93 PB7, 94 BOOT0, 95 PB8, 96 PB9, 97 PE0, 98 PE1, 99 VSS hidden, 100 VDD

## STM32F100V_C-D-E_Tx
designator *  value STM32F100V_C-D-E_Tx  Reference: U
ki_keywords: Arm Cortex-M3 STM32F1 STM32F100 Value Line; ki_description: STMicroelectronics Arm Cortex-M3 MCU, 256-512KB flash, 24-32KB RAM, 24 MHz, 2.0-3.6V, 80 GPIO, LQFP100; ki_fp_filters: LQFP*14x14mm*P0.5mm*; Footprint: Package_QFP:LQFP-100_14x14mm_P0.5mm; Datasheet: https://www.st.com/resource/en/datasheet/stm32f100vc.pdf
pins: 1 PE2, 2 PE3, 3 PE4, 4 PE5, 5 PE6, 6 VBAT, 7 PC13, 8 PC14, 9 PC15, 10 VSS, 11 VDD, 12 OSC_IN, 13 OSC_OUT, 14 NRST, 15 PC0, 16 PC1, 17 PC2, 18 PC3, 19 VSSA, 20 VREF-, 21 VREF+, 22 VDDA, 23 PA0, 24 PA1, 25 PA2, 26 PA3, 27 VSS hidden, 28 VDD, 29 PA4, 30 PA5, 31 PA6, 32 PA7, 33 PC4, 34 PC5, 35 PB0, 36 PB1, 37 PB2, 38 PE7, 39 PE8, 40 PE9, 41 PE10, 42 PE11, 43 PE12, 44 PE13, 45 PE14, 46 PE15, 47 PB10, 48 PB11, 49 VSS hidden, 50 VDD, 51 PB12, 52 PB13, 53 PB14, 54 PB15, 55 PD8, 56 PD9, 57 PD10, 58 PD11, 59 PD12, 60 PD13, 61 PD14, 62 PD15, 63 PC6, 64 PC7, 65 PC8, 66 PC9, 67 PA8, 68 PA9, 69 PA10, 70 PA11, 71 PA12, 72 PA13, 73 NC hidden, 74 VSS hidden, 75 VDD, 76 PA14, 77 PA15, 78 PC10, 79 PC11, 80 PC12, 81 PD0, 82 PD1, 83 PD2, 84 PD3, 85 PD4, 86 PD5, 87 PD6, 88 PD7, 89 PB3, 90 PB4, 91 PB5, 92 PB6, 93 PB7, 94 BOOT0, 95 PB8, 96 PB9, 97 PE0, 98 PE1, 99 VSS hidden, 100 VDD

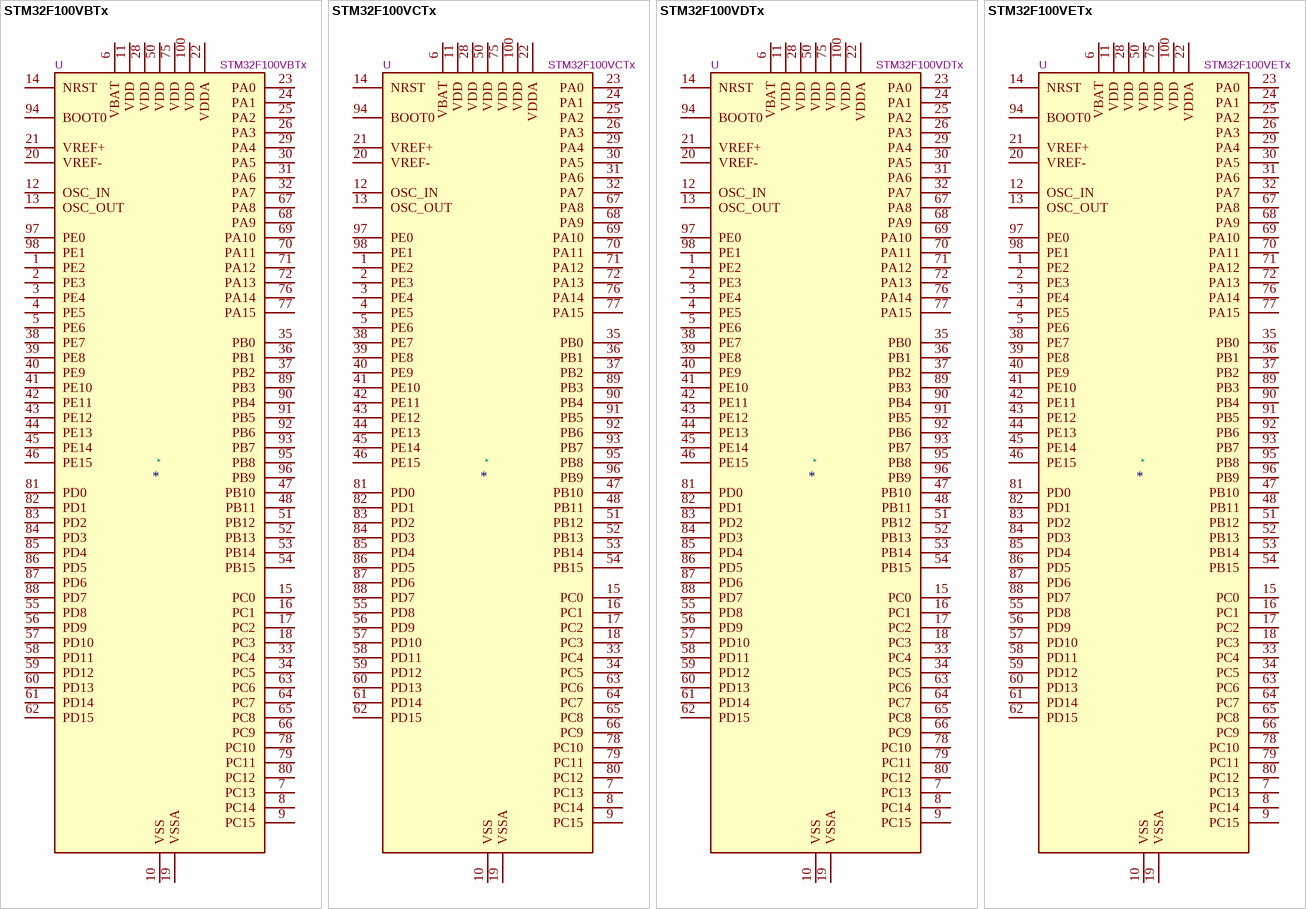
[diagram p3: symbols STM32F100VBTx to STM32F100VETx]

## STM32F100VBTx
designator *  value STM32F100VBTx  Reference: U
ki_keywords: Arm Cortex-M3 STM32F1 STM32F100 Value Line; ki_description: STMicroelectronics Arm Cortex-M3 MCU, 128KB flash, 8KB RAM, 24 MHz, 2.0-3.6V, 80 GPIO, LQFP100; ki_fp_filters: LQFP*14x14mm*P0.5mm*; Footprint: Package_QFP:LQFP-100_14x14mm_P0.5mm; Datasheet: https://www.st.com/resource/en/datasheet/stm32f100vb.pdf
pins: 1 PE2, 2 PE3, 3 PE4, 4 PE5, 5 PE6, 6 VBAT, 7 PC13, 8 PC14, 9 PC15, 10 VSS, 11 VDD, 12 OSC_IN, 13 OSC_OUT, 14 NRST, 15 PC0, 16 PC1, 17 PC2, 18 PC3, 19 VSSA, 20 VREF-, 21 VREF+, 22 VDDA, 23 PA0, 24 PA1, 25 PA2, 26 PA3, 27 VSS hidden, 28 VDD, 29 PA4, 30 PA5, 31 PA6, 32 PA7, 33 PC4, 34 PC5, 35 PB0, 36 PB1, 37 PB2, 38 PE7, 39 PE8, 40 PE9, 41 PE10, 42 PE11, 43 PE12, 44 PE13, 45 PE14, 46 PE15, 47 PB10, 48 PB11, 49 VSS hidden, 50 VDD, 51 PB12, 52 PB13, 53 PB14, 54 PB15, 55 PD8, 56 PD9, 57 PD10, 58 PD11, 59 PD12, 60 PD13, 61 PD14, 62 PD15, 63 PC6, 64 PC7, 65 PC8, 66 PC9, 67 PA8, 68 PA9, 69 PA10, 70 PA11, 71 PA12, 72 PA13, 73 NC hidden, 74 VSS hidden, 75 VDD, 76 PA14, 77 PA15, 78 PC10, 79 PC11, 80 PC12, 81 PD0, 82 PD1, 83 PD2, 84 PD3, 85 PD4, 86 PD5, 87 PD6, 88 PD7, 89 PB3, 90 PB4, 91 PB5, 92 PB6, 93 PB7, 94 BOOT0, 95 PB8, 96 PB9, 97 PE0, 98 PE1, 99 VSS hidden, 100 VDD

## STM32F100VCTx
designator *  value STM32F100VCTx  Reference: U
ki_keywords: Arm Cortex-M3 STM32F1 STM32F100 Value Line; ki_description: STMicroelectronics Arm Cortex-M3 MCU, 256KB flash, 24KB RAM, 24 MHz, 2.0-3.6V, 80 GPIO, LQFP100; ki_fp_filters: LQFP*14x14mm*P0.5mm*; Footprint: Package_QFP:LQFP-100_14x14mm_P0.5mm; Datasheet: https://www.st.com/resource/en/datasheet/stm32f100vc.pdf
pins: 1 PE2, 2 PE3, 3 PE4, 4 PE5, 5 PE6, 6 VBAT, 7 PC13, 8 PC14, 9 PC15, 10 VSS, 11 VDD, 12 OSC_IN, 13 OSC_OUT, 14 NRST, 15 PC0, 16 PC1, 17 PC2, 18 PC3, 19 VSSA, 20 VREF-, 21 VREF+, 22 VDDA, 23 PA0, 24 PA1, 25 PA2, 26 PA3, 27 VSS hidden, 28 VDD, 29 PA4, 30 PA5, 31 PA6, 32 PA7, 33 PC4, 34 PC5, 35 PB0, 36 PB1, 37 PB2, 38 PE7, 39 PE8, 40 PE9, 41 PE10, 42 PE11, 43 PE12, 44 PE13, 45 PE14, 46 PE15, 47 PB10, 48 PB11, 49 VSS hidden, 50 VDD, 51 PB12, 52 PB13, 53 PB14, 54 PB15, 55 PD8, 56 PD9, 57 PD10, 58 PD11, 59 PD12, 60 PD13, 61 PD14, 62 PD15, 63 PC6, 64 PC7, 65 PC8, 66 PC9, 67 PA8, 68 PA9, 69 PA10, 70 PA11, 71 PA12, 72 PA13, 73 NC hidden, 74 VSS hidden, 75 VDD, 76 PA14, 77 PA15, 78 PC10, 79 PC11, 80 PC12, 81 PD0, 82 PD1, 83 PD2, 84 PD3, 85 PD4, 86 PD5, 87 PD6, 88 PD7, 89 PB3, 90 PB4, 91 PB5, 92 PB6, 93 PB7, 94 BOOT0, 95 PB8, 96 PB9, 97 PE0, 98 PE1, 99 VSS hidden, 100 VDD

## STM32F100VDTx
designator *  value STM32F100VDTx  Reference: U
ki_keywords: Arm Cortex-M3 STM32F1 STM32F100 Value Line; ki_description: STMicroelectronics Arm Cortex-M3 MCU, 384KB flash, 32KB RAM, 24 MHz, 2.0-3.6V, 80 GPIO, LQFP100; ki_fp_filters: LQFP*14x14mm*P0.5mm*; Footprint: Package_QFP:LQFP-100_14x14mm_P0.5mm; Datasheet: https://www.st.com/resource/en/datasheet/stm32f100vd.pdf
pins: 1 PE2, 2 PE3, 3 PE4, 4 PE5, 5 PE6, 6 VBAT, 7 PC13, 8 PC14, 9 PC15, 10 VSS, 11 VDD, 12 OSC_IN, 13 OSC_OUT, 14 NRST, 15 PC0, 16 PC1, 17 PC2, 18 PC3, 19 VSSA, 20 VREF-, 21 VREF+, 22 VDDA, 23 PA0, 24 PA1, 25 PA2, 26 PA3, 27 VSS hidden, 28 VDD, 29 PA4, 30 PA5, 31 PA6, 32 PA7, 33 PC4, 34 PC5, 35 PB0, 36 PB1, 37 PB2, 38 PE7, 39 PE8, 40 PE9, 41 PE10, 42 PE11, 43 PE12, 44 PE13, 45 PE14, 46 PE15, 47 PB10, 48 PB11, 49 VSS hidden, 50 VDD, 51 PB12, 52 PB13, 53 PB14, 54 PB15, 55 PD8, 56 PD9, 57 PD10, 58 PD11, 59 PD12, 60 PD13, 61 PD14, 62 PD15, 63 PC6, 64 PC7, 65 PC8, 66 PC9, 67 PA8, 68 PA9, 69 PA10, 70 PA11, 71 PA12, 72 PA13, 73 NC hidden, 74 VSS hidden, 75 VDD, 76 PA14, 77 PA15, 78 PC10, 79 PC11, 80 PC12, 81 PD0, 82 PD1, 83 PD2, 84 PD3, 85 PD4, 86 PD5, 87 PD6, 88 PD7, 89 PB3, 90 PB4, 91 PB5, 92 PB6, 93 PB7, 94 BOOT0, 95 PB8, 96 PB9, 97 PE0, 98 PE1, 99 VSS hidden, 100 VDD

## STM32F100VETx
designator *  value STM32F100VETx  Reference: U
ki_keywords: Arm Cortex-M3 STM32F1 STM32F100 Value Line; ki_description: STMicroelectronics Arm Cortex-M3 MCU, 512KB flash, 32KB RAM, 24 MHz, 2.0-3.6V, 80 GPIO, LQFP100; ki_fp_filters: LQFP*14x14mm*P0.5mm*; Footprint: Package_QFP:LQFP-100_14x14mm_P0.5mm; Datasheet: https://www.st.com/resource/en/datasheet/stm32f100ve.pdf
pins: 1 PE2, 2 PE3, 3 PE4, 4 PE5, 5 PE6, 6 VBAT, 7 PC13, 8 PC14, 9 PC15, 10 VSS, 11 VDD, 12 OSC_IN, 13 OSC_OUT, 14 NRST, 15 PC0, 16 PC1, 17 PC2, 18 PC3, 19 VSSA, 20 VREF-, 21 VREF+, 22 VDDA, 23 PA0, 24 PA1, 25 PA2, 26 PA3, 27 VSS hidden, 28 VDD, 29 PA4, 30 PA5, 31 PA6, 32 PA7, 33 PC4, 34 PC5, 35 PB0, 36 PB1, 37 PB2, 38 PE7, 39 PE8, 40 PE9, 41 PE10, 42 PE11, 43 PE12, 44 PE13, 45 PE14, 46 PE15, 47 PB10, 48 PB11, 49 VSS hidden, 50 VDD, 51 PB12, 52 PB13, 53 PB14, 54 PB15, 55 PD8, 56 PD9, 57 PD10, 58 PD11, 59 PD12, 60 PD13, 61 PD14, 62 PD15, 63 PC6, 64 PC7, 65 PC8, 66 PC9, 67 PA8, 68 PA9, 69 PA10, 70 PA11, 71 PA12, 72 PA13, 73 NC hidden, 74 VSS hidden, 75 VDD, 76 PA14, 77 PA15, 78 PC10, 79 PC11, 80 PC12, 81 PD0, 82 PD1, 83 PD2, 84 PD3, 85 PD4, 86 PD5, 87 PD6, 88 PD7, 89 PB3, 90 PB4, 91 PB5, 92 PB6, 93 PB7, 94 BOOT0, 95 PB8, 96 PB9, 97 PE0, 98 PE1, 99 VSS hidden, 100 VDD

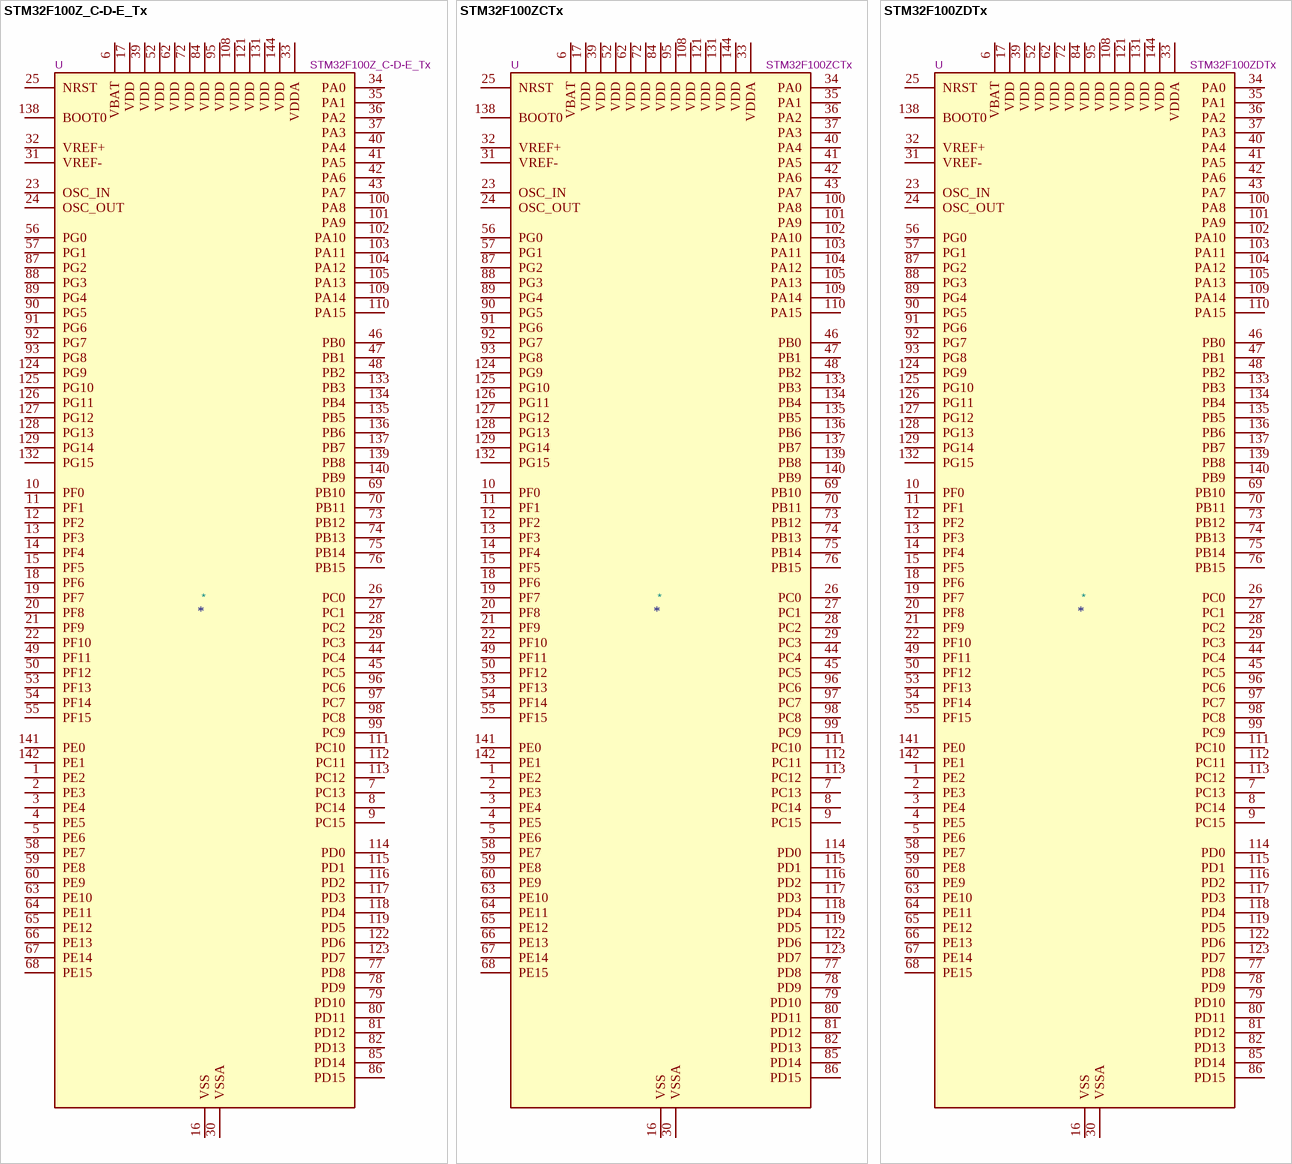
[diagram p4: symbols STM32F100Z_C-D-E_Tx to STM32F100ZDTx]

## STM32F100Z_C-D-E_Tx
designator *  value STM32F100Z_C-D-E_Tx  Reference: U
ki_keywords: Arm Cortex-M3 STM32F1 STM32F100 Value Line; ki_description: STMicroelectronics Arm Cortex-M3 MCU, 256-512KB flash, 24-32KB RAM, 24 MHz, 2.0-3.6V, 112 GPIO, LQFP144; ki_fp_filters: LQFP*20x20mm*P0.5mm*; Footprint: Package_QFP:LQFP-144_20x20mm_P0.5mm; Datasheet: https://www.st.com/resource/en/datasheet/stm32f100zc.pdf
pins: 1 PE2, 2 PE3, 3 PE4, 4 PE5, 5 PE6, 6 VBAT, 7 PC13, 8 PC14, 9 PC15, 10 PF0, 11 PF1, 12 PF2, 13 PF3, 14 PF4, 15 PF5, 16 VSS, 17 VDD, 18 PF6, 19 PF7, 20 PF8, 21 PF9, 22 PF10, 23 OSC_IN, 24 OSC_OUT, 25 NRST, 26 PC0, 27 PC1, 28 PC2, 29 PC3, 30 VSSA, 31 VREF-, 32 VREF+, 33 VDDA, 34 PA0, 35 PA1, 36 PA2, 37 PA3, 38 VSS hidden, 39 VDD, 40 PA4, 41 PA5, 42 PA6, 43 PA7, 44 PC4, 45 PC5, 46 PB0, 47 PB1, 48 PB2, 49 PF11, 50 PF12, 51 VSS hidden, 52 VDD, 53 PF13, 54 PF14, 55 PF15, 56 PG0, 57 PG1, 58 PE7, 59 PE8, 60 PE9, 61 VSS hidden, 62 VDD, 63 PE10, 64 PE11, 65 PE12, 66 PE13, 67 PE14, 68 PE15, 69 PB10, 70 PB11, 71 VSS hidden, 72 VDD, 73 PB12, 74 PB13, 75 PB14, 76 PB15, 77 PD8, 78 PD9, 79 PD10, 80 PD11, 81 PD12, 82 PD13, 83 VSS hidden, 84 VDD, 85 PD14, 86 PD15, 87 PG2, 88 PG3, 89 PG4, 90 PG5, 91 PG6, 92 PG7, 93 PG8, 94 VSS hidden, 95 VDD, 96 PC6, 97 PC7, 98 PC8, 99 PC9, 100 PA8, 101 PA9, 102 PA10, 103 PA11, 104 PA12, 105 PA13, 106 NC hidden, 107 VSS hidden, 108 VDD, 109 PA14, 110 PA15, 111 PC10, 112 PC11, 113 PC12, 114 PD0, 115 PD1, 116 PD2, 117 PD3, 118 PD4, 119 PD5, 120 VSS hidden, 121 VDD, 122 PD6, 123 PD7, 124 PG9, 125 PG10, 126 PG11, 127 PG12, 128 PG13, 129 PG14, 130 VSS hidden, 131 VDD, 132 PG15, 133 PB3, 134 PB4, 135 PB5, 136 PB6, 137 PB7, 138 BOOT0, 139 PB8, 140 PB9, 141 PE0, 142 PE1, 143 VSS hidden, 144 VDD

## STM32F100ZCTx
designator *  value STM32F100ZCTx  Reference: U
ki_keywords: Arm Cortex-M3 STM32F1 STM32F100 Value Line; ki_description: STMicroelectronics Arm Cortex-M3 MCU, 256KB flash, 24KB RAM, 24 MHz, 2.0-3.6V, 112 GPIO, LQFP144; ki_fp_filters: LQFP*20x20mm*P0.5mm*; Footprint: Package_QFP:LQFP-144_20x20mm_P0.5mm; Datasheet: https://www.st.com/resource/en/datasheet/stm32f100zc.pdf
pins: 1 PE2, 2 PE3, 3 PE4, 4 PE5, 5 PE6, 6 VBAT, 7 PC13, 8 PC14, 9 PC15, 10 PF0, 11 PF1, 12 PF2, 13 PF3, 14 PF4, 15 PF5, 16 VSS, 17 VDD, 18 PF6, 19 PF7, 20 PF8, 21 PF9, 22 PF10, 23 OSC_IN, 24 OSC_OUT, 25 NRST, 26 PC0, 27 PC1, 28 PC2, 29 PC3, 30 VSSA, 31 VREF-, 32 VREF+, 33 VDDA, 34 PA0, 35 PA1, 36 PA2, 37 PA3, 38 VSS hidden, 39 VDD, 40 PA4, 41 PA5, 42 PA6, 43 PA7, 44 PC4, 45 PC5, 46 PB0, 47 PB1, 48 PB2, 49 PF11, 50 PF12, 51 VSS hidden, 52 VDD, 53 PF13, 54 PF14, 55 PF15, 56 PG0, 57 PG1, 58 PE7, 59 PE8, 60 PE9, 61 VSS hidden, 62 VDD, 63 PE10, 64 PE11, 65 PE12, 66 PE13, 67 PE14, 68 PE15, 69 PB10, 70 PB11, 71 VSS hidden, 72 VDD, 73 PB12, 74 PB13, 75 PB14, 76 PB15, 77 PD8, 78 PD9, 79 PD10, 80 PD11, 81 PD12, 82 PD13, 83 VSS hidden, 84 VDD, 85 PD14, 86 PD15, 87 PG2, 88 PG3, 89 PG4, 90 PG5, 91 PG6, 92 PG7, 93 PG8, 94 VSS hidden, 95 VDD, 96 PC6, 97 PC7, 98 PC8, 99 PC9, 100 PA8, 101 PA9, 102 PA10, 103 PA11, 104 PA12, 105 PA13, 106 NC hidden, 107 VSS hidden, 108 VDD, 109 PA14, 110 PA15, 111 PC10, 112 PC11, 113 PC12, 114 PD0, 115 PD1, 116 PD2, 117 PD3, 118 PD4, 119 PD5, 120 VSS hidden, 121 VDD, 122 PD6, 123 PD7, 124 PG9, 125 PG10, 126 PG11, 127 PG12, 128 PG13, 129 PG14, 130 VSS hidden, 131 VDD, 132 PG15, 133 PB3, 134 PB4, 135 PB5, 136 PB6, 137 PB7, 138 BOOT0, 139 PB8, 140 PB9, 141 PE0, 142 PE1, 143 VSS hidden, 144 VDD

## STM32F100ZDTx
designator *  value STM32F100ZDTx  Reference: U
ki_keywords: Arm Cortex-M3 STM32F1 STM32F100 Value Line; ki_description: STMicroelectronics Arm Cortex-M3 MCU, 384KB flash, 32KB RAM, 24 MHz, 2.0-3.6V, 112 GPIO, LQFP144; ki_fp_filters: LQFP*20x20mm*P0.5mm*; Footprint: Package_QFP:LQFP-144_20x20mm_P0.5mm; Datasheet: https://www.st.com/resource/en/datasheet/stm32f100zd.pdf
pins: 1 PE2, 2 PE3, 3 PE4, 4 PE5, 5 PE6, 6 VBAT, 7 PC13, 8 PC14, 9 PC15, 10 PF0, 11 PF1, 12 PF2, 13 PF3, 14 PF4, 15 PF5, 16 VSS, 17 VDD, 18 PF6, 19 PF7, 20 PF8, 21 PF9, 22 PF10, 23 OSC_IN, 24 OSC_OUT, 25 NRST, 26 PC0, 27 PC1, 28 PC2, 29 PC3, 30 VSSA, 31 VREF-, 32 VREF+, 33 VDDA, 34 PA0, 35 PA1, 36 PA2, 37 PA3, 38 VSS hidden, 39 VDD, 40 PA4, 41 PA5, 42 PA6, 43 PA7, 44 PC4, 45 PC5, 46 PB0, 47 PB1, 48 PB2, 49 PF11, 50 PF12, 51 VSS hidden, 52 VDD, 53 PF13, 54 PF14, 55 PF15, 56 PG0, 57 PG1, 58 PE7, 59 PE8, 60 PE9, 61 VSS hidden, 62 VDD, 63 PE10, 64 PE11, 65 PE12, 66 PE13, 67 PE14, 68 PE15, 69 PB10, 70 PB11, 71 VSS hidden, 72 VDD, 73 PB12, 74 PB13, 75 PB14, 76 PB15, 77 PD8, 78 PD9, 79 PD10, 80 PD11, 81 PD12, 82 PD13, 83 VSS hidden, 84 VDD, 85 PD14, 86 PD15, 87 PG2, 88 PG3, 89 PG4, 90 PG5, 91 PG6, 92 PG7, 93 PG8, 94 VSS hidden, 95 VDD, 96 PC6, 97 PC7, 98 PC8, 99 PC9, 100 PA8, 101 PA9, 102 PA10, 103 PA11, 104 PA12, 105 PA13, 106 NC hidden, 107 VSS hidden, 108 VDD, 109 PA14, 110 PA15, 111 PC10, 112 PC11, 113 PC12, 114 PD0, 115 PD1, 116 PD2, 117 PD3, 118 PD4, 119 PD5, 120 VSS hidden, 121 VDD, 122 PD6, 123 PD7, 124 PG9, 125 PG10, 126 PG11, 127 PG12, 128 PG13, 129 PG14, 130 VSS hidden, 131 VDD, 132 PG15, 133 PB3, 134 PB4, 135 PB5, 136 PB6, 137 PB7, 138 BOOT0, 139 PB8, 140 PB9, 141 PE0, 142 PE1, 143 VSS hidden, 144 VDD

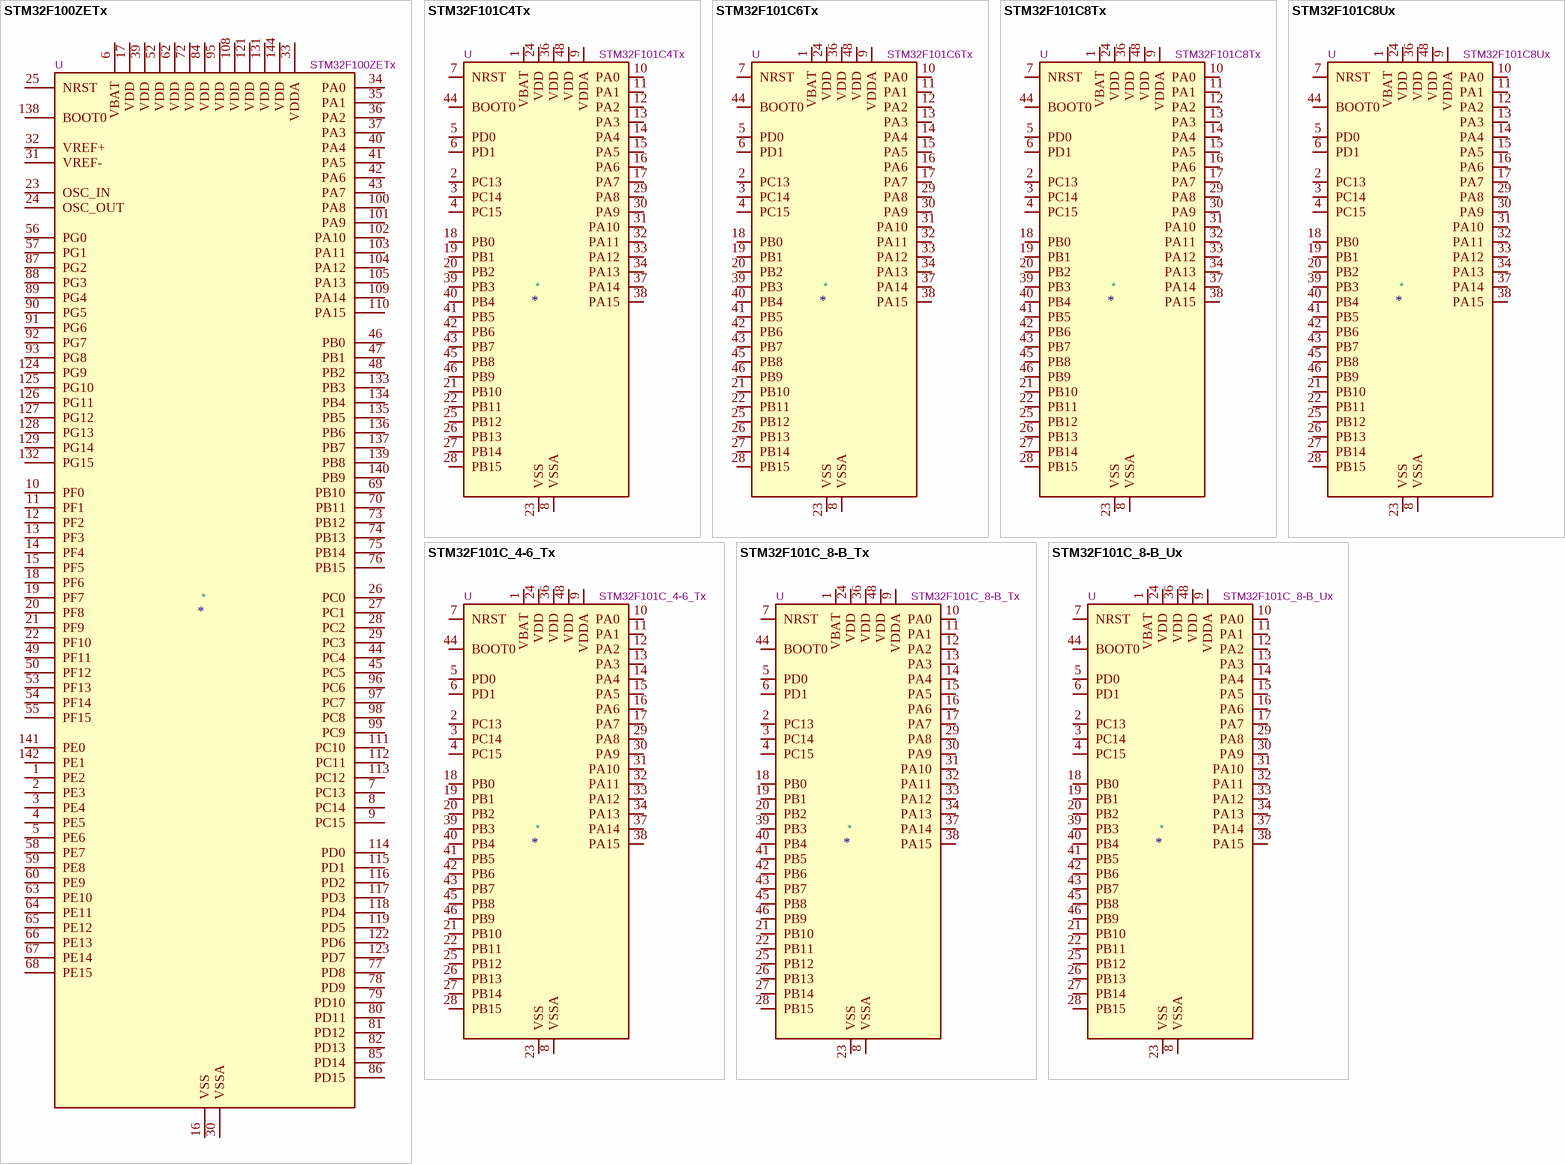
[diagram p5: symbols STM32F100ZETx to STM32F101C_8-B_Ux]

## STM32F100ZETx
designator *  value STM32F100ZETx  Reference: U
ki_keywords: Arm Cortex-M3 STM32F1 STM32F100 Value Line; ki_description: STMicroelectronics Arm Cortex-M3 MCU, 512KB flash, 32KB RAM, 24 MHz, 2.0-3.6V, 112 GPIO, LQFP144; ki_fp_filters: LQFP*20x20mm*P0.5mm*; Footprint: Package_QFP:LQFP-144_20x20mm_P0.5mm; Datasheet: https://www.st.com/resource/en/datasheet/stm32f100ze.pdf
pins: 1 PE2, 2 PE3, 3 PE4, 4 PE5, 5 PE6, 6 VBAT, 7 PC13, 8 PC14, 9 PC15, 10 PF0, 11 PF1, 12 PF2, 13 PF3, 14 PF4, 15 PF5, 16 VSS, 17 VDD, 18 PF6, 19 PF7, 20 PF8, 21 PF9, 22 PF10, 23 OSC_IN, 24 OSC_OUT, 25 NRST, 26 PC0, 27 PC1, 28 PC2, 29 PC3, 30 VSSA, 31 VREF-, 32 VREF+, 33 VDDA, 34 PA0, 35 PA1, 36 PA2, 37 PA3, 38 VSS hidden, 39 VDD, 40 PA4, 41 PA5, 42 PA6, 43 PA7, 44 PC4, 45 PC5, 46 PB0, 47 PB1, 48 PB2, 49 PF11, 50 PF12, 51 VSS hidden, 52 VDD, 53 PF13, 54 PF14, 55 PF15, 56 PG0, 57 PG1, 58 PE7, 59 PE8, 60 PE9, 61 VSS hidden, 62 VDD, 63 PE10, 64 PE11, 65 PE12, 66 PE13, 67 PE14, 68 PE15, 69 PB10, 70 PB11, 71 VSS hidden, 72 VDD, 73 PB12, 74 PB13, 75 PB14, 76 PB15, 77 PD8, 78 PD9, 79 PD10, 80 PD11, 81 PD12, 82 PD13, 83 VSS hidden, 84 VDD, 85 PD14, 86 PD15, 87 PG2, 88 PG3, 89 PG4, 90 PG5, 91 PG6, 92 PG7, 93 PG8, 94 VSS hidden, 95 VDD, 96 PC6, 97 PC7, 98 PC8, 99 PC9, 100 PA8, 101 PA9, 102 PA10, 103 PA11, 104 PA12, 105 PA13, 106 NC hidden, 107 VSS hidden, 108 VDD, 109 PA14, 110 PA15, 111 PC10, 112 PC11, 113 PC12, 114 PD0, 115 PD1, 116 PD2, 117 PD3, 118 PD4, 119 PD5, 120 VSS hidden, 121 VDD, 122 PD6, 123 PD7, 124 PG9, 125 PG10, 126 PG11, 127 PG12, 128 PG13, 129 PG14, 130 VSS hidden, 131 VDD, 132 PG15, 133 PB3, 134 PB4, 135 PB5, 136 PB6, 137 PB7, 138 BOOT0, 139 PB8, 140 PB9, 141 PE0, 142 PE1, 143 VSS hidden, 144 VDD

## STM32F101C4Tx
designator *  value STM32F101C4Tx  Reference: U
ki_keywords: Arm Cortex-M3 STM32F1 STM32F101; ki_description: STMicroelectronics Arm Cortex-M3 MCU, 16KB flash, 4KB RAM, 36 MHz, 2.0-3.6V, 37 GPIO, LQFP48; ki_fp_filters: LQFP*7x7mm*P0.5mm*; Footprint: Package_QFP:LQFP-48_7x7mm_P0.5mm; Datasheet: https://www.st.com/resource/en/datasheet/stm32f101c4.pdf
pins: 1 VBAT, 2 PC13, 3 PC14, 4 PC15, 5 PD0, 6 PD1, 7 NRST, 8 VSSA, 9 VDDA, 10 PA0, 11 PA1, 12 PA2, 13 PA3, 14 PA4, 15 PA5, 16 PA6, 17 PA7, 18 PB0, 19 PB1, 20 PB2, 21 PB10, 22 PB11, 23 VSS, 24 VDD, 25 PB12, 26 PB13, 27 PB14, 28 PB15, 29 PA8, 30 PA9, 31 PA10, 32 PA11, 33 PA12, 34 PA13, 35 VSS hidden, 36 VDD, 37 PA14, 38 PA15, 39 PB3, 40 PB4, 41 PB5, 42 PB6, 43 PB7, 44 BOOT0, 45 PB8, 46 PB9, 47 VSS hidden, 48 VDD

## STM32F101C6Tx
designator *  value STM32F101C6Tx  Reference: U
ki_keywords: Arm Cortex-M3 STM32F1 STM32F101; ki_description: STMicroelectronics Arm Cortex-M3 MCU, 32KB flash, 6KB RAM, 36 MHz, 2.0-3.6V, 37 GPIO, LQFP48; ki_fp_filters: LQFP*7x7mm*P0.5mm*; Footprint: Package_QFP:LQFP-48_7x7mm_P0.5mm; Datasheet: https://www.st.com/resource/en/datasheet/stm32f101c6.pdf
pins: 1 VBAT, 2 PC13, 3 PC14, 4 PC15, 5 PD0, 6 PD1, 7 NRST, 8 VSSA, 9 VDDA, 10 PA0, 11 PA1, 12 PA2, 13 PA3, 14 PA4, 15 PA5, 16 PA6, 17 PA7, 18 PB0, 19 PB1, 20 PB2, 21 PB10, 22 PB11, 23 VSS, 24 VDD, 25 PB12, 26 PB13, 27 PB14, 28 PB15, 29 PA8, 30 PA9, 31 PA10, 32 PA11, 33 PA12, 34 PA13, 35 VSS hidden, 36 VDD, 37 PA14, 38 PA15, 39 PB3, 40 PB4, 41 PB5, 42 PB6, 43 PB7, 44 BOOT0, 45 PB8, 46 PB9, 47 VSS hidden, 48 VDD

## STM32F101C8Tx
designator *  value STM32F101C8Tx  Reference: U
ki_keywords: Arm Cortex-M3 STM32F1 STM32F101; ki_description: STMicroelectronics Arm Cortex-M3 MCU, 64KB flash, 10KB RAM, 36 MHz, 2.0-3.6V, 37 GPIO, LQFP48; ki_fp_filters: LQFP*7x7mm*P0.5mm*; Footprint: Package_QFP:LQFP-48_7x7mm_P0.5mm; Datasheet: https://www.st.com/resource/en/datasheet/stm32f101c8.pdf
pins: 1 VBAT, 2 PC13, 3 PC14, 4 PC15, 5 PD0, 6 PD1, 7 NRST, 8 VSSA, 9 VDDA, 10 PA0, 11 PA1, 12 PA2, 13 PA3, 14 PA4, 15 PA5, 16 PA6, 17 PA7, 18 PB0, 19 PB1, 20 PB2, 21 PB10, 22 PB11, 23 VSS, 24 VDD, 25 PB12, 26 PB13, 27 PB14, 28 PB15, 29 PA8, 30 PA9, 31 PA10, 32 PA11, 33 PA12, 34 PA13, 35 VSS hidden, 36 VDD, 37 PA14, 38 PA15, 39 PB3, 40 PB4, 41 PB5, 42 PB6, 43 PB7, 44 BOOT0, 45 PB8, 46 PB9, 47 VSS hidden, 48 VDD

## STM32F101C8Ux
designator *  value STM32F101C8Ux  Reference: U
ki_keywords: Arm Cortex-M3 STM32F1 STM32F101; ki_description: STMicroelectronics Arm Cortex-M3 MCU, 64KB flash, 10KB RAM, 36 MHz, 2.0-3.6V, 37 GPIO, UFQFPN48; ki_fp_filters: QFN*1EP*7x7mm*P0.5mm*; Footprint: Package_DFN_QFN:QFN-48-1EP_7x7mm_P0.5mm_EP5.6x5.6mm; Datasheet: https://www.st.com/resource/en/datasheet/stm32f101c8.pdf
pins: 1 VBAT, 2 PC13, 3 PC14, 4 PC15, 5 PD0, 6 PD1, 7 NRST, 8 VSSA, 9 VDDA, 10 PA0, 11 PA1, 12 PA2, 13 PA3, 14 PA4, 15 PA5, 16 PA6, 17 PA7, 18 PB0, 19 PB1, 20 PB2, 21 PB10, 22 PB11, 23 VSS, 24 VDD, 25 PB12, 26 PB13, 27 PB14, 28 PB15, 29 PA8, 30 PA9, 31 PA10, 32 PA11, 33 PA12, 34 PA13, 35 VSS hidden, 36 VDD, 37 PA14, 38 PA15, 39 PB3, 40 PB4, 41 PB5, 42 PB6, 43 PB7, 44 BOOT0, 45 PB8, 46 PB9, 47 VSS hidden, 48 VDD, 49 VSS hidden

## STM32F101C_4-6_Tx
designator *  value STM32F101C_4-6_Tx  Reference: U
ki_keywords: Arm Cortex-M3 STM32F1 STM32F101; ki_description: STMicroelectronics Arm Cortex-M3 MCU, 16-32KB flash, 4-6KB RAM, 36 MHz, 2.0-3.6V, 37 GPIO, LQFP48; ki_fp_filters: LQFP*7x7mm*P0.5mm*; Footprint: Package_QFP:LQFP-48_7x7mm_P0.5mm; Datasheet: https://www.st.com/resource/en/datasheet/stm32f101c4.pdf
pins: 1 VBAT, 2 PC13, 3 PC14, 4 PC15, 5 PD0, 6 PD1, 7 NRST, 8 VSSA, 9 VDDA, 10 PA0, 11 PA1, 12 PA2, 13 PA3, 14 PA4, 15 PA5, 16 PA6, 17 PA7, 18 PB0, 19 PB1, 20 PB2, 21 PB10, 22 PB11, 23 VSS, 24 VDD, 25 PB12, 26 PB13, 27 PB14, 28 PB15, 29 PA8, 30 PA9, 31 PA10, 32 PA11, 33 PA12, 34 PA13, 35 VSS hidden, 36 VDD, 37 PA14, 38 PA15, 39 PB3, 40 PB4, 41 PB5, 42 PB6, 43 PB7, 44 BOOT0, 45 PB8, 46 PB9, 47 VSS hidden, 48 VDD

## STM32F101C_8-B_Tx
designator *  value STM32F101C_8-B_Tx  Reference: U
ki_keywords: Arm Cortex-M3 STM32F1 STM32F101; ki_description: STMicroelectronics Arm Cortex-M3 MCU, 64-128KB flash, 10-16KB RAM, 36 MHz, 2.0-3.6V, 37 GPIO, LQFP48; ki_fp_filters: LQFP*7x7mm*P0.5mm*; Footprint: Package_QFP:LQFP-48_7x7mm_P0.5mm; Datasheet: https://www.st.com/resource/en/datasheet/stm32f101c8.pdf
pins: 1 VBAT, 2 PC13, 3 PC14, 4 PC15, 5 PD0, 6 PD1, 7 NRST, 8 VSSA, 9 VDDA, 10 PA0, 11 PA1, 12 PA2, 13 PA3, 14 PA4, 15 PA5, 16 PA6, 17 PA7, 18 PB0, 19 PB1, 20 PB2, 21 PB10, 22 PB11, 23 VSS, 24 VDD, 25 PB12, 26 PB13, 27 PB14, 28 PB15, 29 PA8, 30 PA9, 31 PA10, 32 PA11, 33 PA12, 34 PA13, 35 VSS hidden, 36 VDD, 37 PA14, 38 PA15, 39 PB3, 40 PB4, 41 PB5, 42 PB6, 43 PB7, 44 BOOT0, 45 PB8, 46 PB9, 47 VSS hidden, 48 VDD

## STM32F101C_8-B_Ux
designator *  value STM32F101C_8-B_Ux  Reference: U
ki_keywords: Arm Cortex-M3 STM32F1 STM32F101; ki_description: STMicroelectronics Arm Cortex-M3 MCU, 64-128KB flash, 10-16KB RAM, 36 MHz, 2.0-3.6V, 37 GPIO, UFQFPN48; ki_fp_filters: QFN*1EP*7x7mm*P0.5mm*; Footprint: Package_DFN_QFN:QFN-48-1EP_7x7mm_P0.5mm_EP5.6x5.6mm; Datasheet: https://www.st.com/resource/en/datasheet/stm32f101c8.pdf
pins: 1 VBAT, 2 PC13, 3 PC14, 4 PC15, 5 PD0, 6 PD1, 7 NRST, 8 VSSA, 9 VDDA, 10 PA0, 11 PA1, 12 PA2, 13 PA3, 14 PA4, 15 PA5, 16 PA6, 17 PA7, 18 PB0, 19 PB1, 20 PB2, 21 PB10, 22 PB11, 23 VSS, 24 VDD, 25 PB12, 26 PB13, 27 PB14, 28 PB15, 29 PA8, 30 PA9, 31 PA10, 32 PA11, 33 PA12, 34 PA13, 35 VSS hidden, 36 VDD, 37 PA14, 38 PA15, 39 PB3, 40 PB4, 41 PB5, 42 PB6, 43 PB7, 44 BOOT0, 45 PB8, 46 PB9, 47 VSS hidden, 48 VDD, 49 VSS hidden

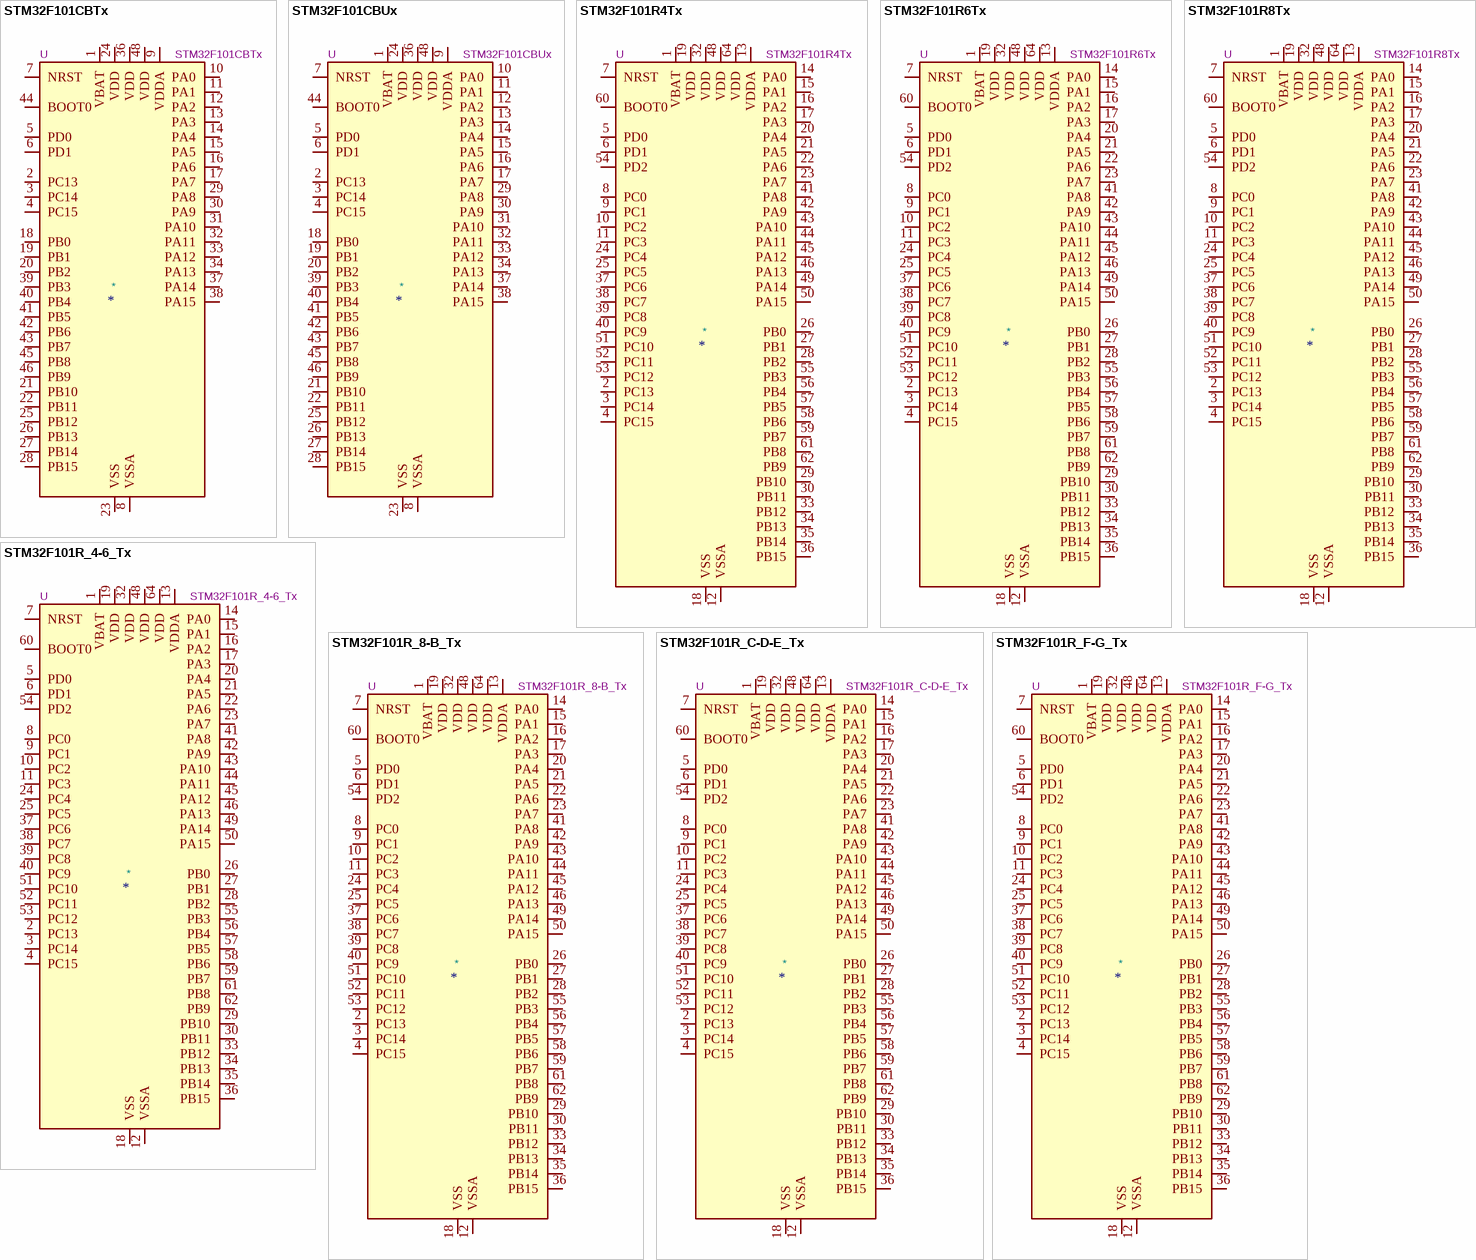
[diagram p6: symbols STM32F101CBTx to STM32F101R_F-G_Tx]

## STM32F101CBTx
designator *  value STM32F101CBTx  Reference: U
ki_keywords: Arm Cortex-M3 STM32F1 STM32F101; ki_description: STMicroelectronics Arm Cortex-M3 MCU, 128KB flash, 16KB RAM, 36 MHz, 2.0-3.6V, 37 GPIO, LQFP48; ki_fp_filters: LQFP*7x7mm*P0.5mm*; Footprint: Package_QFP:LQFP-48_7x7mm_P0.5mm; Datasheet: https://www.st.com/resource/en/datasheet/stm32f101cb.pdf
pins: 1 VBAT, 2 PC13, 3 PC14, 4 PC15, 5 PD0, 6 PD1, 7 NRST, 8 VSSA, 9 VDDA, 10 PA0, 11 PA1, 12 PA2, 13 PA3, 14 PA4, 15 PA5, 16 PA6, 17 PA7, 18 PB0, 19 PB1, 20 PB2, 21 PB10, 22 PB11, 23 VSS, 24 VDD, 25 PB12, 26 PB13, 27 PB14, 28 PB15, 29 PA8, 30 PA9, 31 PA10, 32 PA11, 33 PA12, 34 PA13, 35 VSS hidden, 36 VDD, 37 PA14, 38 PA15, 39 PB3, 40 PB4, 41 PB5, 42 PB6, 43 PB7, 44 BOOT0, 45 PB8, 46 PB9, 47 VSS hidden, 48 VDD

## STM32F101CBUx
designator *  value STM32F101CBUx  Reference: U
ki_keywords: Arm Cortex-M3 STM32F1 STM32F101; ki_description: STMicroelectronics Arm Cortex-M3 MCU, 128KB flash, 16KB RAM, 36 MHz, 2.0-3.6V, 37 GPIO, UFQFPN48; ki_fp_filters: QFN*1EP*7x7mm*P0.5mm*; Footprint: Package_DFN_QFN:QFN-48-1EP_7x7mm_P0.5mm_EP5.6x5.6mm; Datasheet: https://www.st.com/resource/en/datasheet/stm32f101cb.pdf
pins: 1 VBAT, 2 PC13, 3 PC14, 4 PC15, 5 PD0, 6 PD1, 7 NRST, 8 VSSA, 9 VDDA, 10 PA0, 11 PA1, 12 PA2, 13 PA3, 14 PA4, 15 PA5, 16 PA6, 17 PA7, 18 PB0, 19 PB1, 20 PB2, 21 PB10, 22 PB11, 23 VSS, 24 VDD, 25 PB12, 26 PB13, 27 PB14, 28 PB15, 29 PA8, 30 PA9, 31 PA10, 32 PA11, 33 PA12, 34 PA13, 35 VSS hidden, 36 VDD, 37 PA14, 38 PA15, 39 PB3, 40 PB4, 41 PB5, 42 PB6, 43 PB7, 44 BOOT0, 45 PB8, 46 PB9, 47 VSS hidden, 48 VDD, 49 VSS hidden

## STM32F101R4Tx
designator *  value STM32F101R4Tx  Reference: U
ki_keywords: Arm Cortex-M3 STM32F1 STM32F101; ki_description: STMicroelectronics Arm Cortex-M3 MCU, 16KB flash, 4KB RAM, 36 MHz, 2.0-3.6V, 51 GPIO, LQFP64; ki_fp_filters: LQFP*10x10mm*P0.5mm*; Footprint: Package_QFP:LQFP-64_10x10mm_P0.5mm; Datasheet: https://www.st.com/resource/en/datasheet/stm32f101r4.pdf
pins: 1 VBAT, 2 PC13, 3 PC14, 4 PC15, 5 PD0, 6 PD1, 7 NRST, 8 PC0, 9 PC1, 10 PC2, 11 PC3, 12 VSSA, 13 VDDA, 14 PA0, 15 PA1, 16 PA2, 17 PA3, 18 VSS, 19 VDD, 20 PA4, 21 PA5, 22 PA6, 23 PA7, 24 PC4, 25 PC5, 26 PB0, 27 PB1, 28 PB2, 29 PB10, 30 PB11, 31 VSS hidden, 32 VDD, 33 PB12, 34 PB13, 35 PB14, 36 PB15, 37 PC6, 38 PC7, 39 PC8, 40 PC9, 41 PA8, 42 PA9, 43 PA10, 44 PA11, 45 PA12, 46 PA13, 47 VSS hidden, 48 VDD, 49 PA14, 50 PA15, 51 PC10, 52 PC11, 53 PC12, 54 PD2, 55 PB3, 56 PB4, 57 PB5, 58 PB6, 59 PB7, 60 BOOT0, 61 PB8, 62 PB9, 63 VSS hidden, 64 VDD

## STM32F101R6Tx
designator *  value STM32F101R6Tx  Reference: U
ki_keywords: Arm Cortex-M3 STM32F1 STM32F101; ki_description: STMicroelectronics Arm Cortex-M3 MCU, 32KB flash, 6KB RAM, 36 MHz, 2.0-3.6V, 51 GPIO, LQFP64; ki_fp_filters: LQFP*10x10mm*P0.5mm*; Footprint: Package_QFP:LQFP-64_10x10mm_P0.5mm; Datasheet: https://www.st.com/resource/en/datasheet/stm32f101r6.pdf
pins: 1 VBAT, 2 PC13, 3 PC14, 4 PC15, 5 PD0, 6 PD1, 7 NRST, 8 PC0, 9 PC1, 10 PC2, 11 PC3, 12 VSSA, 13 VDDA, 14 PA0, 15 PA1, 16 PA2, 17 PA3, 18 VSS, 19 VDD, 20 PA4, 21 PA5, 22 PA6, 23 PA7, 24 PC4, 25 PC5, 26 PB0, 27 PB1, 28 PB2, 29 PB10, 30 PB11, 31 VSS hidden, 32 VDD, 33 PB12, 34 PB13, 35 PB14, 36 PB15, 37 PC6, 38 PC7, 39 PC8, 40 PC9, 41 PA8, 42 PA9, 43 PA10, 44 PA11, 45 PA12, 46 PA13, 47 VSS hidden, 48 VDD, 49 PA14, 50 PA15, 51 PC10, 52 PC11, 53 PC12, 54 PD2, 55 PB3, 56 PB4, 57 PB5, 58 PB6, 59 PB7, 60 BOOT0, 61 PB8, 62 PB9, 63 VSS hidden, 64 VDD

## STM32F101R8Tx
designator *  value STM32F101R8Tx  Reference: U
ki_keywords: Arm Cortex-M3 STM32F1 STM32F101; ki_description: STMicroelectronics Arm Cortex-M3 MCU, 64KB flash, 10KB RAM, 36 MHz, 2.0-3.6V, 51 GPIO, LQFP64; ki_fp_filters: LQFP*10x10mm*P0.5mm*; Footprint: Package_QFP:LQFP-64_10x10mm_P0.5mm; Datasheet: https://www.st.com/resource/en/datasheet/stm32f101r8.pdf
pins: 1 VBAT, 2 PC13, 3 PC14, 4 PC15, 5 PD0, 6 PD1, 7 NRST, 8 PC0, 9 PC1, 10 PC2, 11 PC3, 12 VSSA, 13 VDDA, 14 PA0, 15 PA1, 16 PA2, 17 PA3, 18 VSS, 19 VDD, 20 PA4, 21 PA5, 22 PA6, 23 PA7, 24 PC4, 25 PC5, 26 PB0, 27 PB1, 28 PB2, 29 PB10, 30 PB11, 31 VSS hidden, 32 VDD, 33 PB12, 34 PB13, 35 PB14, 36 PB15, 37 PC6, 38 PC7, 39 PC8, 40 PC9, 41 PA8, 42 PA9, 43 PA10, 44 PA11, 45 PA12, 46 PA13, 47 VSS hidden, 48 VDD, 49 PA14, 50 PA15, 51 PC10, 52 PC11, 53 PC12, 54 PD2, 55 PB3, 56 PB4, 57 PB5, 58 PB6, 59 PB7, 60 BOOT0, 61 PB8, 62 PB9, 63 VSS hidden, 64 VDD

## STM32F101R_4-6_Tx
designator *  value STM32F101R_4-6_Tx  Reference: U
ki_keywords: Arm Cortex-M3 STM32F1 STM32F101; ki_description: STMicroelectronics Arm Cortex-M3 MCU, 16-32KB flash, 4-6KB RAM, 36 MHz, 2.0-3.6V, 51 GPIO, LQFP64; ki_fp_filters: LQFP*10x10mm*P0.5mm*; Footprint: Package_QFP:LQFP-64_10x10mm_P0.5mm; Datasheet: https://www.st.com/resource/en/datasheet/stm32f101r4.pdf
pins: 1 VBAT, 2 PC13, 3 PC14, 4 PC15, 5 PD0, 6 PD1, 7 NRST, 8 PC0, 9 PC1, 10 PC2, 11 PC3, 12 VSSA, 13 VDDA, 14 PA0, 15 PA1, 16 PA2, 17 PA3, 18 VSS, 19 VDD, 20 PA4, 21 PA5, 22 PA6, 23 PA7, 24 PC4, 25 PC5, 26 PB0, 27 PB1, 28 PB2, 29 PB10, 30 PB11, 31 VSS hidden, 32 VDD, 33 PB12, 34 PB13, 35 PB14, 36 PB15, 37 PC6, 38 PC7, 39 PC8, 40 PC9, 41 PA8, 42 PA9, 43 PA10, 44 PA11, 45 PA12, 46 PA13, 47 VSS hidden, 48 VDD, 49 PA14, 50 PA15, 51 PC10, 52 PC11, 53 PC12, 54 PD2, 55 PB3, 56 PB4, 57 PB5, 58 PB6, 59 PB7, 60 BOOT0, 61 PB8, 62 PB9, 63 VSS hidden, 64 VDD

## STM32F101R_8-B_Tx
designator *  value STM32F101R_8-B_Tx  Reference: U
ki_keywords: Arm Cortex-M3 STM32F1 STM32F101; ki_description: STMicroelectronics Arm Cortex-M3 MCU, 64-128KB flash, 10-16KB RAM, 36 MHz, 2.0-3.6V, 51 GPIO, LQFP64; ki_fp_filters: LQFP*10x10mm*P0.5mm*; Footprint: Package_QFP:LQFP-64_10x10mm_P0.5mm; Datasheet: https://www.st.com/resource/en/datasheet/stm32f101r8.pdf
pins: 1 VBAT, 2 PC13, 3 PC14, 4 PC15, 5 PD0, 6 PD1, 7 NRST, 8 PC0, 9 PC1, 10 PC2, 11 PC3, 12 VSSA, 13 VDDA, 14 PA0, 15 PA1, 16 PA2, 17 PA3, 18 VSS, 19 VDD, 20 PA4, 21 PA5, 22 PA6, 23 PA7, 24 PC4, 25 PC5, 26 PB0, 27 PB1, 28 PB2, 29 PB10, 30 PB11, 31 VSS hidden, 32 VDD, 33 PB12, 34 PB13, 35 PB14, 36 PB15, 37 PC6, 38 PC7, 39 PC8, 40 PC9, 41 PA8, 42 PA9, 43 PA10, 44 PA11, 45 PA12, 46 PA13, 47 VSS hidden, 48 VDD, 49 PA14, 50 PA15, 51 PC10, 52 PC11, 53 PC12, 54 PD2, 55 PB3, 56 PB4, 57 PB5, 58 PB6, 59 PB7, 60 BOOT0, 61 PB8, 62 PB9, 63 VSS hidden, 64 VDD

## STM32F101R_C-D-E_Tx
designator *  value STM32F101R_C-D-E_Tx  Reference: U
ki_keywords: Arm Cortex-M3 STM32F1 STM32F101; ki_description: STMicroelectronics Arm Cortex-M3 MCU, 256-512KB flash, 32-48KB RAM, 36 MHz, 2.0-3.6V, 51 GPIO, LQFP64; ki_fp_filters: LQFP*10x10mm*P0.5mm*; Footprint: Package_QFP:LQFP-64_10x10mm_P0.5mm; Datasheet: https://www.st.com/resource/en/datasheet/stm32f101rc.pdf
pins: 1 VBAT, 2 PC13, 3 PC14, 4 PC15, 5 PD0, 6 PD1, 7 NRST, 8 PC0, 9 PC1, 10 PC2, 11 PC3, 12 VSSA, 13 VDDA, 14 PA0, 15 PA1, 16 PA2, 17 PA3, 18 VSS, 19 VDD, 20 PA4, 21 PA5, 22 PA6, 23 PA7, 24 PC4, 25 PC5, 26 PB0, 27 PB1, 28 PB2, 29 PB10, 30 PB11, 31 VSS hidden, 32 VDD, 33 PB12, 34 PB13, 35 PB14, 36 PB15, 37 PC6, 38 PC7, 39 PC8, 40 PC9, 41 PA8, 42 PA9, 43 PA10, 44 PA11, 45 PA12, 46 PA13, 47 VSS hidden, 48 VDD, 49 PA14, 50 PA15, 51 PC10, 52 PC11, 53 PC12, 54 PD2, 55 PB3, 56 PB4, 57 PB5, 58 PB6, 59 PB7, 60 BOOT0, 61 PB8, 62 PB9, 63 VSS hidden, 64 VDD